# Altium schematic symbol library Connector.SchLib: 365 symbols (part 1 of 4)
Pins are listed as number, name and electrical type; pins without a type are passive.

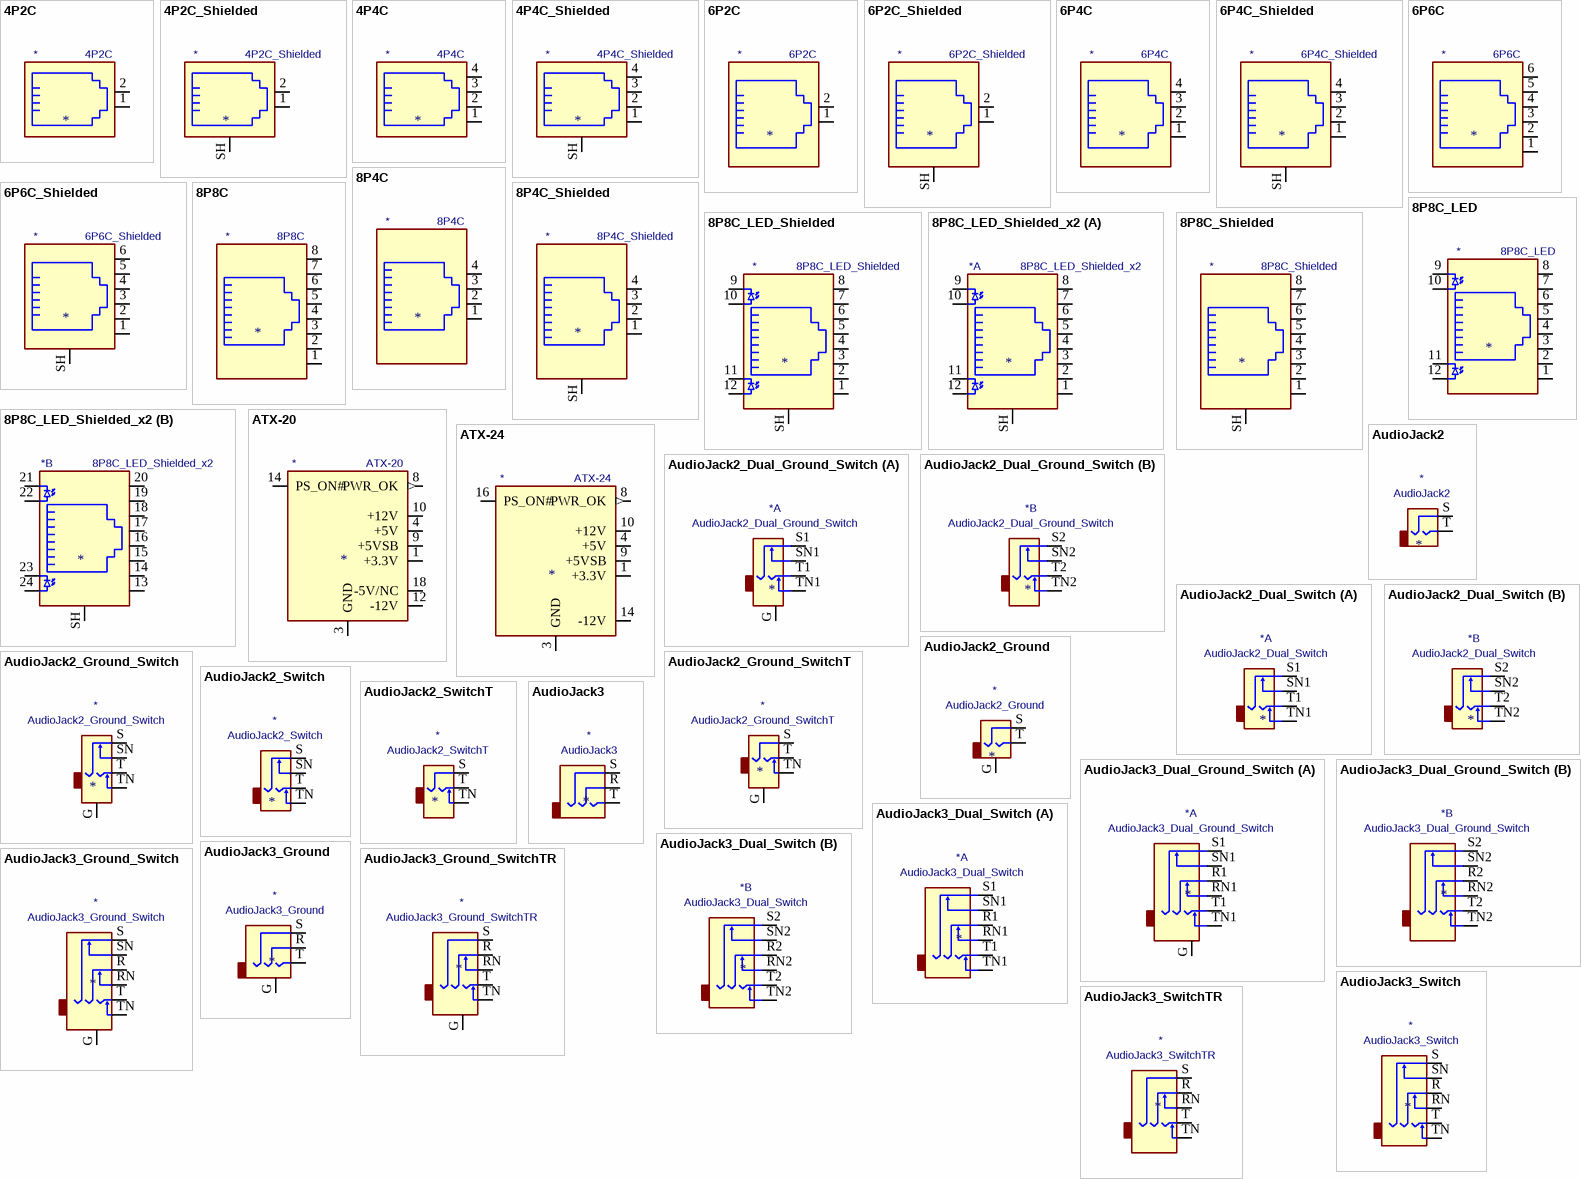
[diagram p0: symbols 4P2C to AudioJack3_SwitchTR]

## 4P2C
designator *  value 4P2C
ki_keywords: 4P2C RJ female connector; ki_description: RJ connector, 4P2C (4 positions 2 connected); ki_fp_filters: 4P2C*; Supplier: ~
pins: 1, 2

## 4P2C_Shielded
designator *  value 4P2C_Shielded
ki_keywords: 4P2C RJ female connector; ki_description: RJ connector, 4P2C (4 positions 2 connected), Shielded; ki_fp_filters: 4P2C*; Supplier: ~
pins: 1, 2, SH

## 4P4C
designator *  value 4P4C
ki_keywords: 4P4C RJ female connector; ki_description: RJ connector, 4P4C (4 positions 4 connected), RJ9/RJ10/RJ22; ki_fp_filters: 4P4C* RJ9* RJ10* RJ22*; Supplier: ~
pins: 1, 2, 3, 4

## 4P4C_Shielded
designator *  value 4P4C_Shielded
ki_keywords: 4P4C RJ female connector; ki_description: RJ connector, 4P4C (4 positions 4 connected), RJ9/RJ10/RJ22, Shielded; ki_fp_filters: 4P4C* RJ9* RJ10* RJ22*; Supplier: ~
pins: 1, 2, 3, 4, SH

## 6P2C
designator *  value 6P2C
ki_keywords: 6P2C RJ female connector; ki_description: RJ connector, 6P2C (6 positions 2 connected), RJ11; ki_fp_filters: 6P2C* RJ11*; Supplier: ~
pins: 1, 2

## 6P2C_Shielded
designator *  value 6P2C_Shielded
ki_keywords: 6P2C RJ female connector; ki_description: RJ connector, 6P2C (6 positions 2 connected), RJ11, Shielded; ki_fp_filters: 6P2C* RJ11*; Supplier: ~
pins: 1, 2, SH

## 6P4C
designator *  value 6P4C
ki_keywords: 6P4C RJ female connector; ki_description: RJ connector, 6P4C (6 positions 4 connected), RJ13/RJ14; ki_fp_filters: 6P4C* RJ13* RJ14*; Supplier: ~
pins: 1, 2, 3, 4

## 6P4C_Shielded
designator *  value 6P4C_Shielded
ki_keywords: 6P4C RJ female connector; ki_description: RJ connector, 6P4C (6 positions 4 connected), RJ13/RJ14, Shielded; ki_fp_filters: 6P4C* RJ13* RJ14*; Supplier: ~
pins: 1, 2, 3, 4, SH

## 6P6C
designator *  value 6P6C
ki_keywords: 6P6C RJ female connector; ki_description: RJ connector, 6P6C (6 positions 6 connected), RJ12/RJ18/RJ25; ki_fp_filters: 6P6C* RJ12* RJ18* RJ25*; Supplier: ~
pins: 1, 2, 3, 4, 5, 6

## 6P6C_Shielded
designator *  value 6P6C_Shielded
ki_keywords: 6P6C RJ female connector; ki_description: RJ connector, 6P6C (6 positions 6 connected), RJ12/RJ18/RJ25, Shielded; ki_fp_filters: 6P6C* RJ12* RJ18* RJ25*; Supplier: ~
pins: 1, 2, 3, 4, 5, 6, SH

## 8P4C
designator *  value 8P4C
ki_keywords: 8P4C RJ female connector; ki_description: RJ connector, 8P4C (8 positions 4 connected), RJ38/RJ48; ki_fp_filters: 8P4C* RJ38* RJ48*; Supplier: ~
pins: 1, 2, 3, 4

## 8P4C_Shielded
designator *  value 8P4C_Shielded
ki_keywords: 8P4C RJ female connector; ki_description: RJ connector, 8P4C (8 positions 4 connected), RJ38/RJ48, Shielded; ki_fp_filters: 8P4C* RJ38* RJ48*; Supplier: ~
pins: 1, 2, 3, 4, SH

## 8P8C
designator *  value 8P8C
ki_keywords: 8P8C RJ female connector; ki_description: RJ connector, 8P8C (8 positions 8 connected), RJ31/RJ32/RJ33/RJ34/RJ35/RJ41/RJ45/RJ49/RJ61; ki_fp_filters: 8P8C* RJ31* RJ32* RJ33* RJ34* RJ35* RJ41* RJ45* RJ49* RJ61*; Supplier: ~
pins: 1, 2, 3, 4, 5, 6, 7, 8

## 8P8C_LED
designator *  value 8P8C_LED
ki_keywords: 8P8C RJ female connector led; ki_description: RJ connector, 8P8C (8 positions 8 connected), two LEDs, RJ45; ki_fp_filters: 8P8C* RJ45*; Supplier: ~
pins: 1, 2, 3, 4, 5, 6, 7, 8, 9, 10, 11, 12

## 8P8C_LED_Shielded
designator *  value 8P8C_LED_Shielded
ki_keywords: 8P8C RJ female connector led; ki_description: RJ connector, 8P8C (8 positions 8 connected), two LEDs, RJ45, Shielded; ki_fp_filters: 8P8C* RJ45*; Supplier: ~
pins: 1, 2, 3, 4, 5, 6, 7, 8, 9, 10, 11, 12, SH

## 8P8C_LED_Shielded_x2
designator *  value 8P8C_LED_Shielded_x2
ki_keywords: 8P8C RJ female connector led dual; ki_description: RJ connector, 8P8C (8 positions 8 connected), two LEDs, RJ45, Shielded, two ports; ki_fp_filters: 8P8C*02* RJ45*02*; Supplier: ~
part A pins: 1, 2, 3, 4, 5, 6, 7, 8, 9, 10, 11, 12, SH
part B pins: 13, 14, 15, 16, 17, 18, 19, 20, 21, 22, 23, 24, SH

## 8P8C_Shielded
designator *  value 8P8C_Shielded
ki_keywords: 8P8C RJ female connector; ki_description: RJ connector, 8P8C (8 positions 8 connected), RJ31/RJ32/RJ33/RJ34/RJ35/RJ41/RJ45/RJ49/RJ61, Shielded; ki_fp_filters: 8P8C* RJ31* RJ32* RJ33* RJ34* RJ35* RJ41* RJ45* RJ49* RJ61*; Supplier: ~
pins: 1, 2, 3, 4, 5, 6, 7, 8, SH

## ATX-20
designator *  value ATX-20
ki_keywords: ATX PSU; ki_description: ATX Power supply 20pins; ki_fp_filters: *Mini?Fit*2x10*Vertical* *Mini?Fit*2x10*Horizontal*; Supplier: https://web.aub.edu.lb/pub/docs/atx_201.pdf#page=20
pins: 1 +3.3V (power), 2 +3.3V hidden, 3 GND (power), 4 +5V (power), 5 GND hidden, 6 +5V hidden, 7 GND hidden, 8 PWR_OK (out), 9 +5VSB (power), 10 +12V (power), 11 +3.3V hidden, 12 -12V (power), 13 GND hidden, 14 PS_ON# (oc), 15 GND hidden, 16 GND hidden, 17 GND hidden, 18 -5V/NC (power), 19 +5V hidden, 20 +5V hidden

## ATX-24
designator *  value ATX-24
ki_keywords: ATX PSU; ki_description: ATX Power supply 24pins; ki_fp_filters: *Mini?Fit*2x12*Vertical* *Mini?Fit*2x12*Horizontal*; Supplier: https://www.intel.com/content/dam/www/public/us/en/documents/guides/power-supply-design-guide-june.pdf#page=33
pins: 1 +3.3V (power), 2 +3.3V hidden, 3 GND (power), 4 +5V (power), 5 GND hidden, 6 +5V hidden, 7 GND hidden, 8 PWR_OK (out), 9 +5VSB (power), 10 +12V (power), 11 +12V hidden, 12 +3.3V hidden, 13 +3.3V hidden, 14 -12V (power), 15 GND hidden, 16 PS_ON# (oc), 17 GND hidden, 18 GND hidden, 19 GND hidden, 20 NC (in) hidden, 21 +5V hidden, 22 +5V hidden, 23 +5V hidden, 24 GND hidden

## AudioJack2
designator *  value AudioJack2
ki_keywords: audio jack receptacle mono phone headphone TS connector; ki_description: Audio Jack, 2 Poles (Mono / TS); ki_fp_filters: Jack*; Supplier: ~
pins: S, T

## AudioJack2_Dual_Ground_Switch
designator *  value AudioJack2_Dual_Ground_Switch
ki_keywords: audio jack dual receptacle mono headphones phone TS connector; ki_description: Audio Jack, Dual, 2 Poles (Mono / TS), Grounded Sleeve, Switched Pole (Normalling); ki_fp_filters: Jack*; Supplier: ~
part A pins: G, S1, SN1, T1, TN1
part B pins: S2, SN2, T2, TN2

## AudioJack2_Dual_Switch
designator *  value AudioJack2_Dual_Switch
ki_keywords: audio jack dual receptacle mono headphones phone TS connector; ki_description: Audio Jack, Dual, 2 Poles (Mono / TS), Switched Pole (Normalling); ki_fp_filters: Jack*; Supplier: ~
part A pins: S1, SN1, T1, TN1
part B pins: S2, SN2, T2, TN2

## AudioJack2_Ground
designator *  value AudioJack2_Ground
ki_keywords: audio jack receptacle mono phone headphone TS connector; ki_description: Audio Jack, 2 Poles (Mono / TS), Grounded Sleeve; ki_fp_filters: Jack*; Supplier: ~
pins: G, S, T

## AudioJack2_Ground_Switch
designator *  value AudioJack2_Ground_Switch
ki_keywords: audio jack receptacle mono headphones phone TS connector; ki_description: Audio Jack, 2 Poles (Mono / TS), Grounded Sleeve, Switched Pole (Normalling); ki_fp_filters: Jack*; Supplier: ~
pins: G, S, SN, T, TN

## AudioJack2_Ground_SwitchT
designator *  value AudioJack2_Ground_SwitchT
ki_keywords: audio jack receptacle mono headphones phone TS connector; ki_description: Audio Jack, 2 Poles (Mono / TS), Grounded Sleeve, Switched T Pole (Normalling); ki_fp_filters: Jack*; Supplier: ~
pins: G, S, T, TN

## AudioJack2_Switch
designator *  value AudioJack2_Switch
ki_keywords: audio jack receptacle mono headphones phone TS connector; ki_description: Audio Jack, 2 Poles (Mono / TS), Switched Pole (Normalling); ki_fp_filters: Jack*; Supplier: ~
pins: S, SN, T, TN

## AudioJack2_SwitchT
designator *  value AudioJack2_SwitchT
ki_keywords: audio jack receptacle mono headphones phone TS connector; ki_description: Audio Jack, 2 Poles (Mono / TS), Switched T Pole (Normalling); ki_fp_filters: Jack*; Supplier: ~
pins: S, T, TN

## AudioJack3
designator *  value AudioJack3
ki_keywords: audio jack receptacle stereo headphones phones TRS connector; ki_description: Audio Jack, 3 Poles (Stereo / TRS); ki_fp_filters: Jack*; Supplier: ~
pins: R, S, T

## AudioJack3_Dual_Ground_Switch
designator *  value AudioJack3_Dual_Ground_Switch
ki_keywords: audio jack dual receptacle stereo headphones phones TRS connector; ki_description: Audio Jack, Dual, 3 Poles (Stereo / TRS), Grounded Sleeve, Switched Poles (Normalling); ki_fp_filters: Jack*; Supplier: ~
part A pins: G, R1, RN1, S1, SN1, T1, TN1
part B pins: R2, RN2, S2, SN2, T2, TN2

## AudioJack3_Dual_Switch
designator *  value AudioJack3_Dual_Switch
ki_keywords: audio jack dual receptacle stereo headphones phones TRS connector; ki_description: Audio Jack, Dual, 3 Poles (Stereo / TRS), Switched Poles (Normalling); ki_fp_filters: Jack*; Supplier: ~
part A pins: R1, RN1, S1, SN1, T1, TN1
part B pins: R2, RN2, S2, SN2, T2, TN2

## AudioJack3_Ground
designator *  value AudioJack3_Ground
ki_keywords: audio jack receptacle stereo headphones phones TRS connector; ki_description: Audio Jack, 3 Poles (Stereo / TRS), Grounded Sleeve; ki_fp_filters: Jack*; Supplier: ~
pins: G, R, S, T

## AudioJack3_Ground_Switch
designator *  value AudioJack3_Ground_Switch
ki_keywords: audio jack receptacle stereo headphones phones TRS connector; ki_description: Audio Jack, 3 Poles (Stereo / TRS), Grounded Sleeve, Switched Poles (Normalling); ki_fp_filters: Jack*; Supplier: ~
pins: G, R, RN, S, SN, T, TN

## AudioJack3_Ground_SwitchTR
designator *  value AudioJack3_Ground_SwitchTR
ki_keywords: audio jack receptacle stereo headphones phones TRS connector; ki_description: Audio Jack, 3 Poles (Stereo / TRS), Grounded Sleeve, Switched TR Poles (Normalling); ki_fp_filters: Jack*; Supplier: ~
pins: G, R, RN, S, T, TN

## AudioJack3_Switch
designator *  value AudioJack3_Switch
ki_keywords: audio jack receptacle stereo headphones connector; ki_description: Audio Jack, 3 Poles (Stereo / TRS), Switched Poles (Normalling); ki_fp_filters: Jack*; Supplier: ~
pins: R, RN, S, SN, T, TN

## AudioJack3_SwitchTR
designator *  value AudioJack3_SwitchTR
ki_keywords: audio jack receptacle stereo headphones phones TRS connector; ki_description: Audio Jack, 3 Poles (Stereo / TRS), Switched TR Poles (Normalling); ki_fp_filters: Jack*; Supplier: ~
pins: R, RN, S, T, TN

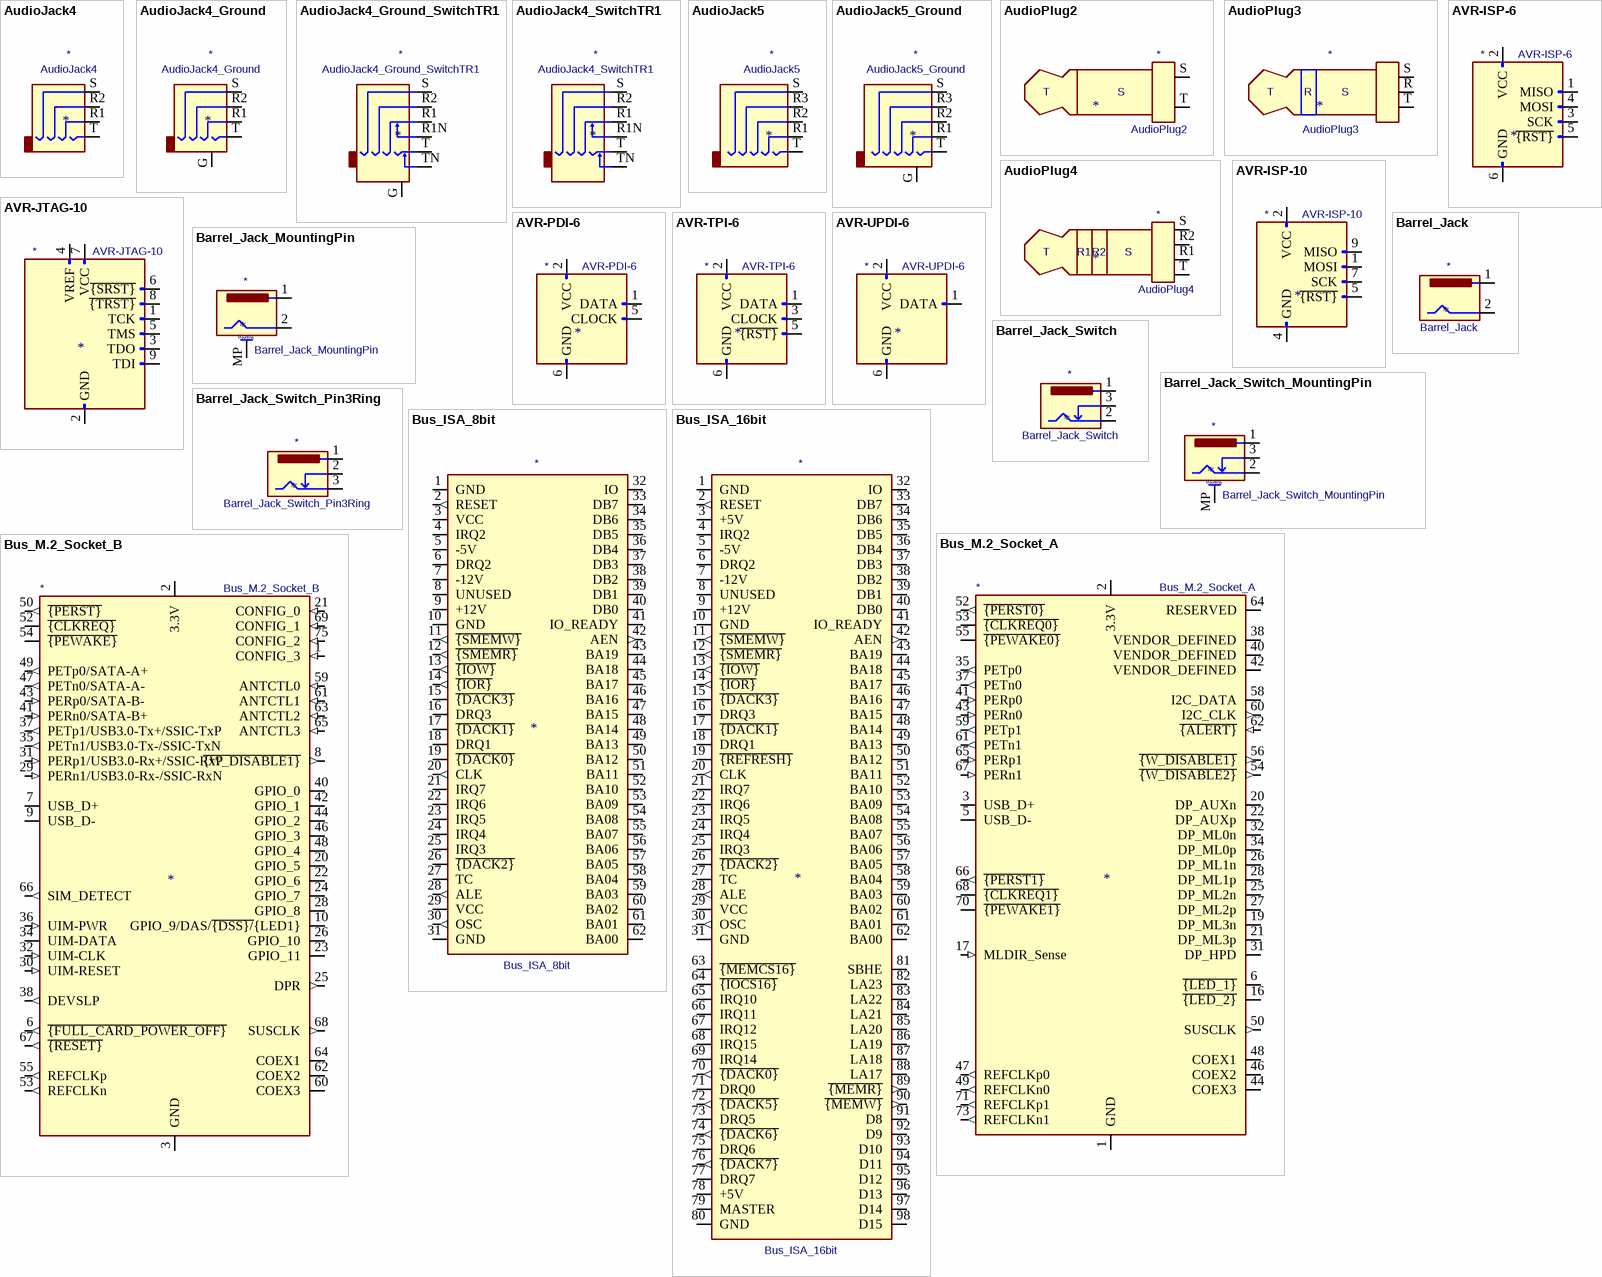
[diagram p1: symbols AudioJack4 to Bus_M.2_Socket_B]

## AudioJack4
designator *  value AudioJack4
ki_keywords: audio jack receptacle stereo headphones TRRS connector; ki_description: Audio Jack, 4 Poles (TRRS); ki_fp_filters: Jack*; Supplier: ~
pins: R1, R2, S, T

## AudioJack4_Ground
designator *  value AudioJack4_Ground
ki_keywords: audio jack receptacle stereo headphones TRRS connector; ki_description: Audio Jack, 4 Poles (TRRS), Grounded Sleeve; ki_fp_filters: Jack*; Supplier: ~
pins: G, R1, R2, S, T

## AudioJack4_Ground_SwitchTR1
designator *  value AudioJack4_Ground_SwitchTR1
ki_keywords: audio jack receptacle stereo headphones phones TRS connector; ki_description: Audio Jack, 4 Poles (Stereo / TRRS), Grounded Sleeve, Switched TR1 Poles (Normalling); ki_fp_filters: Jack*; Supplier: ~
pins: G, R1, R1N, R2, S, T, TN

## AudioJack4_SwitchTR1
designator *  value AudioJack4_SwitchTR1
ki_keywords: audio jack receptacle stereo headphones phones TRS connector; ki_description: Audio Jack, 4 Poles (Stereo / TRRS), Switched TR1 Poles (Normalling); ki_fp_filters: Jack*; Supplier: ~
pins: R1, R1N, R2, S, T, TN

## AudioJack5
designator *  value AudioJack5
ki_keywords: audio jack receptacle stereo headphones TRRRS connector; ki_description: Audio Jack, 5 Poles (TRRRS); ki_fp_filters: Jack*; Supplier: ~
pins: R1, R2, R3, S, T

## AudioJack5_Ground
designator *  value AudioJack5_Ground
ki_keywords: audio jack receptacle stereo headphones TRRRS connector; ki_description: Audio Jack, 5 Poles (TRRRS), Grounded Sleeve; ki_fp_filters: Jack*; Supplier: ~
pins: G, R1, R2, R3, S, T

## AudioPlug2
designator *  value AudioPlug2
ki_keywords: audio jack plug stereo headphones TRRS connector 2.5mm 3.5mm 6.35mm; ki_description: Audio Jack, 2 Poles (Mono / TS); ki_fp_filters: Plug*; Supplier: ~
pins: S, T

## AudioPlug3
designator *  value AudioPlug3
ki_keywords: audio jack plug stereo headphones TRRS connector 2.5mm 3.5mm 6.35mm; ki_description: Audio Jack, 3 Poles (Stereo / TRS); ki_fp_filters: Plug*; Supplier: ~
pins: R, S, T

## AudioPlug4
designator *  value AudioPlug4
ki_keywords: audio jack plug stereo headphones TRRS connector 2.5mm 3.5mm; ki_description: Audio Jack, 4 Poles (Stereo / TRRS); ki_fp_filters: Plug*; Supplier: ~
pins: R1, R2, S, T

## AVR-ISP-6
designator *  value AVR-ISP-6
ki_keywords: AVR ISP Connector; ki_description: Atmel 6-pin ISP connector; ki_fp_filters: IDC?Header*2x03* Pin?Header*2x03*; Supplier: ~
pins: 1 MISO, 2 VCC, 3 SCK, 4 MOSI, 5 ~{{RST}}, 6 GND

## AVR-ISP-10
designator *  value AVR-ISP-10
ki_keywords: AVR ISP Connector; ki_description: Atmel 10-pin ISP connector; ki_fp_filters: IDC?Header*2x05* Pin?Header*2x05*; Supplier: ~
pins: 1 MOSI, 2 VCC, 3 NC (in) hidden, 4 GND, 5 ~{{RST}}, 6 GND hidden, 7 SCK, 8 GND hidden, 9 MISO, 10 GND hidden

## AVR-JTAG-10
designator *  value AVR-JTAG-10
ki_keywords: AVR JTAG Connector; ki_description: Atmel 10-pin JTAG connector; ki_fp_filters: IDC?Header*2x05* Pin?Header*2x05*; Supplier: ~
pins: 1 TCK, 2 GND, 3 TDO, 4 VREF, 5 TMS, 6 ~{{SRST}}, 7 VCC, 8 ~{{TRST}}, 9 TDI, 10 GND hidden

## AVR-PDI-6
designator *  value AVR-PDI-6
ki_keywords: AVR PDI Connector; ki_description: Atmel 6-pin PDI connector; ki_fp_filters: IDC?Header*2x03* Pin?Header*2x03*; Supplier: ~
pins: 1 DATA, 2 VCC, 3 NC (in) hidden, 4 NC (in) hidden, 5 CLOCK, 6 GND

## AVR-TPI-6
designator *  value AVR-TPI-6
ki_keywords: AVR TPI Connector; ki_description: Atmel 6-pin TPI connector; ki_fp_filters: IDC?Header*2x03* Pin?Header*2x03*; Supplier: ~
pins: 1 DATA, 2 VCC, 3 CLOCK, 4 NC (in) hidden, 5 ~{{RST}}, 6 GND

## AVR-UPDI-6
designator *  value AVR-UPDI-6
ki_keywords: AVR UPDI Connector; ki_description: Atmel 6-pin UPDI connector; ki_fp_filters: IDC?Header*2x03* Pin?Header*2x03*; Supplier: https://www.microchip.com/webdoc/GUID-9D10622A-5C16-4405-B092-1BDD437B4976/index.html?GUID-9B349315-2842-4189-B88C-49F4E1055D7F
pins: 1 DATA, 2 VCC, 3 NC (in) hidden, 4 NC (in) hidden, 5 NC (in) hidden, 6 GND

## Barrel_Jack
designator *  value Barrel_Jack
ki_keywords: DC power barrel jack connector; ki_description: DC Barrel Jack; ki_fp_filters: BarrelJack*; Supplier: ~
pins: 1, 2

## Barrel_Jack_MountingPin
designator *  value Barrel_Jack_MountingPin
ki_keywords: DC power barrel jack connector; ki_description: DC Barrel Jack with a mounting pin; ki_fp_filters: BarrelJack*; Supplier: ~
pins: 1, 2, MP MountPin
text: Mounting

## Barrel_Jack_Switch
designator *  value Barrel_Jack_Switch
ki_keywords: DC power barrel jack connector; ki_description: DC Barrel Jack with an internal switch; ki_fp_filters: BarrelJack*; Supplier: ~
pins: 1, 2, 3

## Barrel_Jack_Switch_MountingPin
designator *  value Barrel_Jack_Switch_MountingPin
ki_keywords: DC power barrel jack connector; ki_description: DC Barrel Jack with an internal switch and a mounting pin; ki_fp_filters: BarrelJack*; Supplier: ~
pins: 1, 2, 3, MP MountPin
text: Mounting

## Barrel_Jack_Switch_Pin3Ring
designator *  value Barrel_Jack_Switch_Pin3Ring
ki_keywords: DC power barrel jack connector; ki_description: DC Barrel Jack with an internal switch; ki_fp_filters: BarrelJack*; Supplier: ~
pins: 1, 2, 3

## Bus_ISA_8bit
designator *  value Bus_ISA_8bit
ki_keywords: ISA; ki_description: 8-bit ISA-PC bus connector; Supplier: https://en.wikipedia.org/wiki/Industry_Standard_Architecture
pins: 1 GND (power), 2 RESET (out), 3 VCC (power), 4 IRQ2, 5 -5V (power), 6 DRQ2, 7 -12V (power), 8 UNUSED, 9 +12V (power), 10 GND (power), 11 ~{{SMEMW}} (out), 12 ~{{SMEMR}} (out), 13 ~{{IOW}} (out), 14 ~{{IOR}} (out), 15 ~{{DACK3}}, 16 DRQ3, 17 ~{{DACK1}}, 18 DRQ1, 19 ~{{DACK0}}, 20 CLK (out), 21 IRQ7, 22 IRQ6, 23 IRQ5, 24 IRQ4, 25 IRQ3, 26 ~{{DACK2}}, 27 TC, 28 ALE (out), 29 VCC (power), 30 OSC (out), 31 GND (power), 32 IO, 33 DB7 (hiz), 34 DB6 (hiz), 35 DB5 (hiz), 36 DB4 (hiz), 37 DB3 (hiz), 38 DB2 (hiz), 39 DB1 (hiz), 40 DB0 (hiz), 41 IO_READY, 42 AEN (out), 43 BA19 (hiz), 44 BA18 (hiz), 45 BA17 (hiz), 46 BA16 (hiz), 47 BA15 (hiz), 48 BA14 (hiz), 49 BA13 (hiz), 50 BA12 (hiz), 51 BA11 (hiz), 52 BA10 (hiz), 53 BA09 (hiz), 54 BA08 (hiz), 55 BA07 (hiz), 56 BA06 (hiz), 57 BA05 (hiz), 58 BA04 (hiz), 59 BA03 (hiz), 60 BA02 (hiz), 61 BA01 (hiz), 62 BA00 (hiz)

## Bus_ISA_16bit
designator *  value Bus_ISA_16bit
ki_keywords: ISA; ki_description: 16-bit ISA-AT bus connector; Supplier: https://en.wikipedia.org/wiki/Industry_Standard_Architecture
pins: 1 GND (power), 2 RESET (out), 3 +5V (power), 4 IRQ2, 5 -5V (power), 6 DRQ2, 7 -12V (power), 8 UNUSED, 9 +12V (power), 10 GND (power), 11 ~{{SMEMW}} (out), 12 ~{{SMEMR}} (out), 13 ~{{IOW}} (out), 14 ~{{IOR}} (out), 15 ~{{DACK3}}, 16 DRQ3, 17 ~{{DACK1}}, 18 DRQ1, 19 ~{{REFRESH}}, 20 CLK (out), 21 IRQ7, 22 IRQ6, 23 IRQ5, 24 IRQ4, 25 IRQ3, 26 ~{{DACK2}}, 27 TC, 28 ALE (out), 29 VCC (power), 30 OSC (out), 31 GND (power), 32 IO, 33 DB7 (hiz), 34 DB6 (hiz), 35 DB5 (hiz), 36 DB4 (hiz), 37 DB3 (hiz), 38 DB2 (hiz), 39 DB1 (hiz), 40 DB0 (hiz), 41 IO_READY, 42 AEN (out), 43 BA19 (hiz), 44 BA18 (hiz), 45 BA17 (hiz), 46 BA16 (hiz), 47 BA15 (hiz), 48 BA14 (hiz), 49 BA13 (hiz), 50 BA12 (hiz), 51 BA11 (hiz), 52 BA10 (hiz), 53 BA09 (hiz), 54 BA08 (hiz), 55 BA07 (hiz), 56 BA06 (hiz), 57 BA05 (hiz), 58 BA04 (hiz), 59 BA03 (hiz), 60 BA02 (hiz), 61 BA01 (hiz), 62 BA00 (hiz), 63 ~{{MEMCS16}}, 64 ~{{IOCS16}}, 65 IRQ10, 66 IRQ11, 67 IRQ12, 68 IRQ15, 69 IRQ14, 70 ~{{DACK0}} (out), 71 DRQ0, 72 ~{{DACK5}} (out), 73 DRQ5, 74 ~{{DACK6}} (out), 75 DRQ6, 76 ~{{DACK7}} (out), 77 DRQ7, 78 +5V (power), 79 MASTER, 80 GND (power), 81 SBHE, 82 LA23, 83 LA22, 84 LA21, 85 LA20, 86 LA19, 87 LA18, 88 LA17, 89 ~{{MEMR}} (out), 90 ~{{MEMW}} (out), 91 D8 (hiz), 92 D9 (hiz), 93 D10 (hiz), 94 D11 (hiz), 95 D12 (hiz), 96 D13 (hiz), 97 D14 (hiz), 98 D15 (hiz)

## Bus_M.2_Socket_A
designator *  value Bus_M.2_Socket_A
ki_keywords: M2 NGNF PCI-E; ki_description: M.2 Socket 1-DP Mechanical Key A; ki_fp_filters: *M*2*A*; Supplier: http://read.pudn.com/downloads794/doc/project/3133918/PCIe_M.2_Electromechanical_Spec_Rev1.0_Final_11012013_RS_Clean.pdf#page=148
pins: 1 GND (power), 2 3.3V (power), 3 USB_D+ (io), 4 3.3V hidden, 5 USB_D- (io), 6 ~{{LED_1}} (oc), 7 GND hidden, 16 ~{{LED_2}} (oc), 17 MLDIR_Sense (in), 18 GND hidden, 19 DP_ML3n (io), 20 DP_AUXn (io), 21 DP_ML3p (io), 22 DP_AUXp (io), 23 GND hidden, 24 GND hidden, 25 DP_ML2n (io), 26 DP_ML1n (io), 27 DP_ML2p (io), 28 DP_ML1p (io), 29 GND hidden, 30 GND hidden, 31 DP_HPD (io), 32 DP_ML0n (io), 33 GND hidden, 34 DP_ML0p (io), 35 PETp0 (out), 36 GND hidden, 37 PETn0 (out), 38 VENDOR_DEFINED, 39 GND hidden, 40 VENDOR_DEFINED, 41 PERp0 (in), 42 VENDOR_DEFINED, 43 PERn0 (in), 44 COEX3 (io), 45 GND hidden, 46 COEX2 (io), 47 REFCLKp0 (out), 48 COEX1 (io), 49 REFCLKn0 (out), 50 SUSCLK (out), 51 GND hidden, 52 ~{{PERST0}} (out), 53 ~{{CLKREQ0}} (io), 54 ~{{W_DISABLE2}} (out), 55 ~{{PEWAKE0}} (io), 56 ~{{W_DISABLE1}} (out), 57 GND hidden, 58 I2C_DATA (io), 59 PETp1 (out), 60 I2C_CLK (out), 61 PETn1 (out), 62 ~{{ALERT}} (in), 63 GND hidden, 64 RESERVED, 65 PERp1 (in), 66 ~{{PERST1}} (out), 67 PERn1 (in), 68 ~{{CLKREQ1}} (io), 69 GND hidden, 70 ~{{PEWAKE1}} (io), 71 REFCLKp1 (out), 72 3.3V hidden, 73 REFCLKn1 (out), 74 3.3V hidden, 75 GND hidden

## Bus_M.2_Socket_B
designator *  value Bus_M.2_Socket_B
ki_keywords: M2 NGNF PCI-E; ki_description: M.2 Socket 2 Mechanical Key B; ki_fp_filters: *M*2*B*; Supplier: http://read.pudn.com/downloads794/doc/project/3133918/PCIe_M.2_Electromechanical_Spec_Rev1.0_Final_11012013_RS_Clean.pdf#page=154
pins: 1 CONFIG_3 (in), 2 3.3V (power), 3 GND (power), 4 3.3V hidden, 5 GND hidden, 6 ~{{FULL_CARD_POWER_OFF}} (out), 7 USB_D+ (io), 8 ~{{W_DISABLE1}} (out), 9 USB_D- (io), 10 GPIO_9/DAS/~{{DSS}/}{LED1} (io), 11 GND hidden, 20 GPIO_5 (io), 21 CONFIG_0 (in), 22 GPIO_6 (io), 23 GPIO_11 (io), 24 GPIO_7 (io), 25 DPR (out), 26 GPIO_10 (io), 27 GND hidden, 28 GPIO_8 (io), 29 PERn1/USB3.0-Rx-/SSIC-RxN (in), 30 UIM-RESET (in), 31 PERp1/USB3.0-Rx+/SSIC-RxP (in), 32 UIM-CLK (in), 33 GND hidden, 34 UIM-DATA (io), 35 PETn1/USB3.0-Tx-/SSIC-TxN (out), 36 UIM-PWR (in), 37 PETp1/USB3.0-Tx+/SSIC-TxP (out), 38 DEVSLP (out), 39 GND hidden, 40 GPIO_0 (io), 41 PERn0/SATA-B+ (in), 42 GPIO_1 (io), 43 PERp0/SATA-B- (in), 44 GPIO_2 (io), 45 GND hidden, 46 GPIO_3 (io), 47 PETn0/SATA-A- (out), 48 GPIO_4 (io), 49 PETp0/SATA-A+ (out), 50 ~{{PERST}} (out), 51 GND hidden, 52 ~{{CLKREQ}} (io), 53 REFCLKn (out), 54 ~{{PEWAKE}} (io), 55 REFCLKp (out), 56 NC (in) hidden, 57 GND hidden, 58 NC (in) hidden, 59 ANTCTL0 (in), 60 COEX3 (io), 61 ANTCTL1 (in), 62 COEX2 (io), 63 ANTCTL2 (in), 64 COEX1 (io), 65 ANTCTL3 (in), 66 SIM_DETECT (out), 67 ~{{RESET}} (out), 68 SUSCLK (out), 69 CONFIG_1 (in), 70 3.3V hidden, 71 GND hidden, 72 3.3V hidden, 73 GND hidden, 74 3.3V hidden, 75 CONFIG_2 (in)

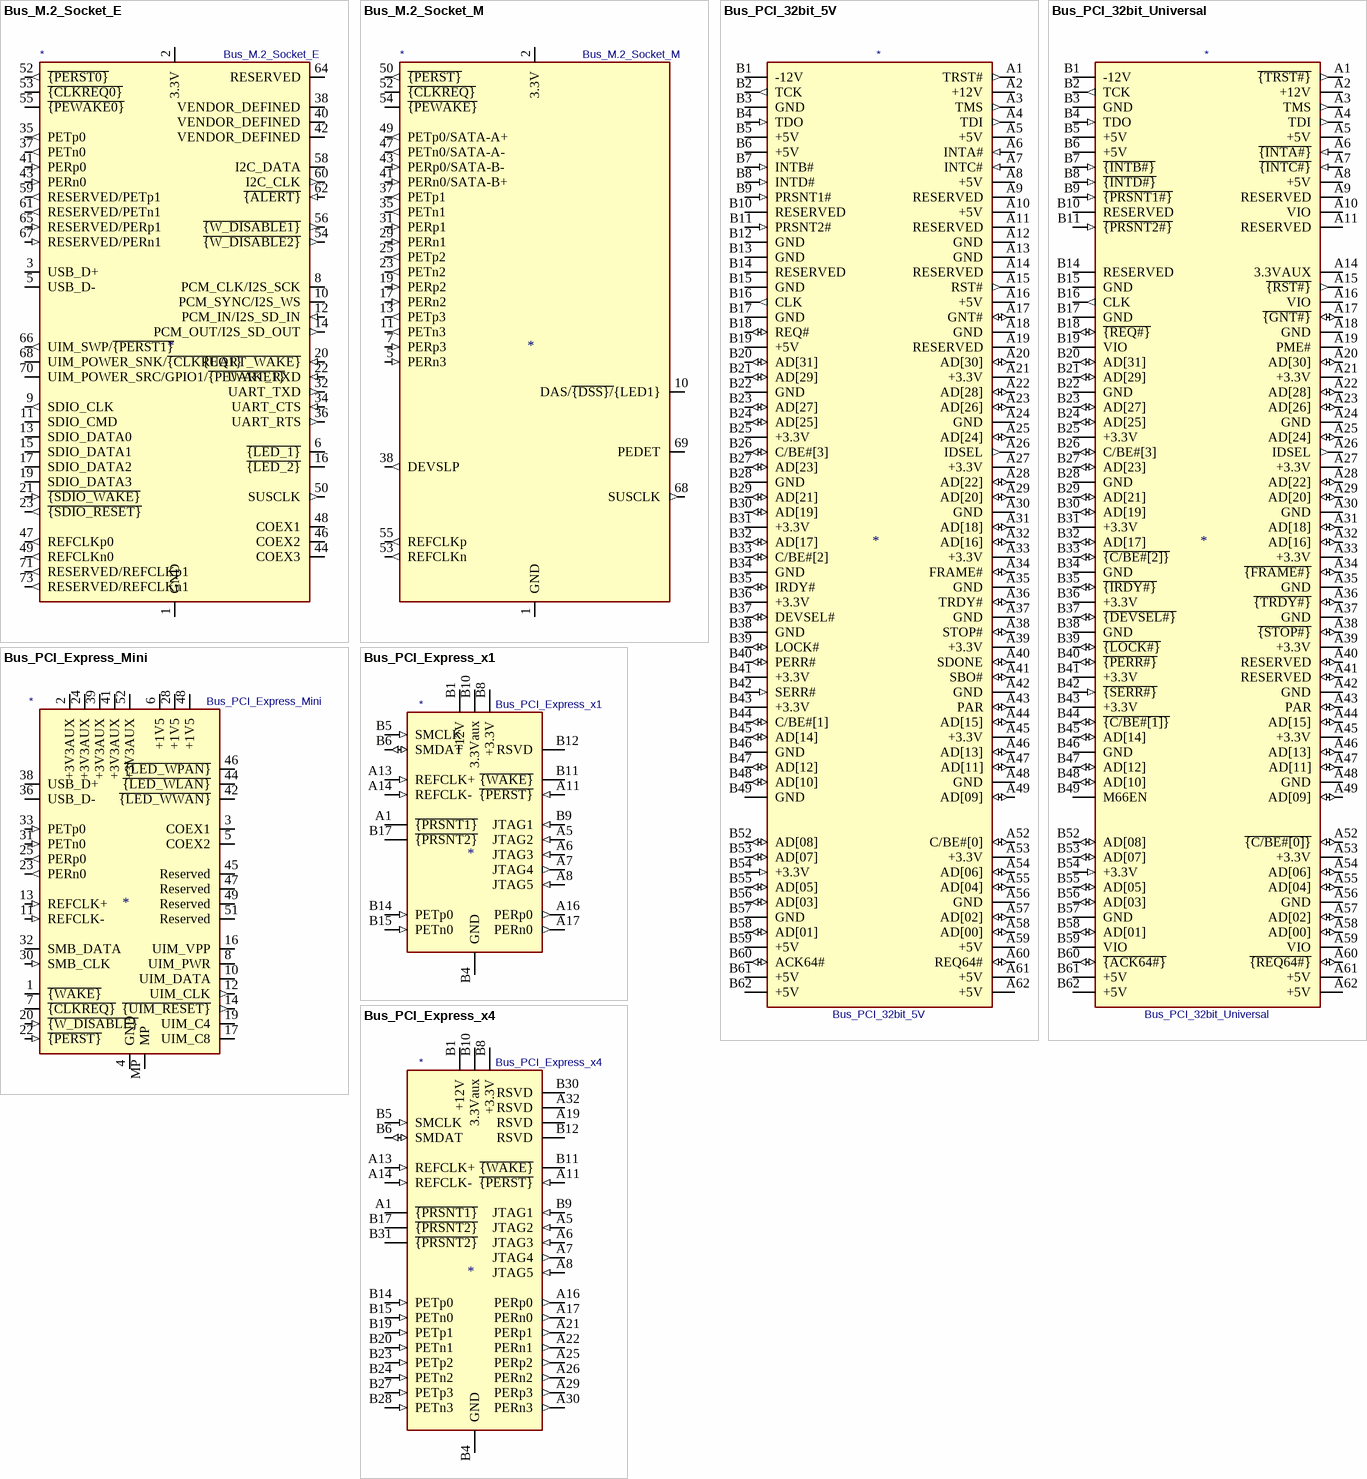
[diagram p2: symbols Bus_M.2_Socket_E to Bus_PCI_Express_x4]

## Bus_M.2_Socket_E
designator *  value Bus_M.2_Socket_E
ki_keywords: M2 NGNF PCI-E; ki_description: M.2 Socket 1-SD Mechanical Key E; ki_fp_filters: *M*2*E*; Supplier: http://read.pudn.com/downloads794/doc/project/3133918/PCIe_M.2_Electromechanical_Spec_Rev1.0_Final_11012013_RS_Clean.pdf#page=150
pins: 1 GND (power), 2 3.3V (power), 3 USB_D+ (io), 4 3.3V hidden, 5 USB_D- (io), 6 ~{{LED_1}} (oc), 7 GND hidden, 8 PCM_CLK/I2S_SCK (io), 9 SDIO_CLK (out), 10 PCM_SYNC/I2S_WS (io), 11 SDIO_CMD (io), 12 PCM_IN/I2S_SD_IN (in), 13 SDIO_DATA0 (io), 14 PCM_OUT/I2S_SD_OUT (out), 15 SDIO_DATA1 (io), 16 ~{{LED_2}} (oc), 17 SDIO_DATA2 (io), 18 GND hidden, 19 SDIO_DATA3 (io), 20 ~{{UART_WAKE}} (in), 21 ~{{SDIO_WAKE}} (in), 22 UART_RXD (in), 23 ~{{SDIO_RESET}} (out), 32 UART_TXD (out), 33 GND hidden, 34 UART_CTS (in), 35 PETp0 (out), 36 UART_RTS (out), 37 PETn0 (out), 38 VENDOR_DEFINED, 39 GND hidden, 40 VENDOR_DEFINED, 41 PERp0 (in), 42 VENDOR_DEFINED, 43 PERn0 (in), 44 COEX3 (io), 45 GND hidden, 46 COEX2 (io), 47 REFCLKp0 (out), 48 COEX1 (io), 49 REFCLKn0 (out), 50 SUSCLK (out), 51 GND hidden, 52 ~{{PERST0}} (out), 53 ~{{CLKREQ0}} (io), 54 ~{{W_DISABLE2}} (out), 55 ~{{PEWAKE0}} (io), 56 ~{{W_DISABLE1}} (out), 57 GND hidden, 58 I2C_DATA (io), 59 RESERVED/PETp1 (out), 60 I2C_CLK (out), 61 RESERVED/PETn1 (out), 62 ~{{ALERT}} (in), 63 GND hidden, 64 RESERVED, 65 RESERVED/PERp1 (in), 66 UIM_SWP/~{{PERST1}} (out), 67 RESERVED/PERn1 (in), 68 UIM_POWER_SNK/~{{CLKREQ1}} (io), 69 GND hidden, 70 UIM_POWER_SRC/GPIO1/~{{PEWAKE1}} (io), 71 RESERVED/REFCLKp1 (out), 72 3.3V hidden, 73 RESERVED/REFCLKn1 (out), 74 3.3V hidden, 75 GND hidden

## Bus_M.2_Socket_M
designator *  value Bus_M.2_Socket_M
ki_keywords: M2 NGNF PCI-E; ki_description: M.2 Socket 3 Mechanical Key M; ki_fp_filters: *M*2*M*; Supplier: http://read.pudn.com/downloads794/doc/project/3133918/PCIe_M.2_Electromechanical_Spec_Rev1.0_Final_11012013_RS_Clean.pdf#page=155
pins: 1 GND (power), 2 3.3V (power), 3 GND hidden, 4 3.3V hidden, 5 PERn3 (in), 6 NC (in) hidden, 7 PERp3 (in), 8 NC (in) hidden, 9 GND hidden, 10 DAS/~{{DSS}/}{LED1} (io), 11 PETn3 (out), 12 3.3V hidden, 13 PETp3 (out), 14 3.3V hidden, 15 GND hidden, 16 3.3V hidden, 17 PERn2 (in), 18 3.3V hidden, 19 PERp2 (in), 20 NC (in) hidden, 21 GND hidden, 22 NC (in) hidden, 23 PETn2 (out), 24 NC (in) hidden, 25 PETp2 (out), 26 NC (in) hidden, 27 GND hidden, 28 NC (in) hidden, 29 PERn1 (in), 30 NC (in) hidden, 31 PERp1 (in), 32 NC (in) hidden, 33 GND hidden, 34 NC (in) hidden, 35 PETn1 (out), 36 NC (in) hidden, 37 PETp1 (out), 38 DEVSLP (out), 39 GND hidden, 40 NC (in) hidden, 41 PERn0/SATA-B+ (in), 42 NC (in) hidden, 43 PERp0/SATA-B- (in), 44 NC (in) hidden, 45 GND hidden, 46 NC (in) hidden, 47 PETn0/SATA-A- (out), 48 NC (in) hidden, 49 PETp0/SATA-A+ (out), 50 ~{{PERST}} (out), 51 GND hidden, 52 ~{{CLKREQ}} (io), 53 REFCLKn (out), 54 ~{{PEWAKE}} (io), 55 REFCLKp (out), 56 NC (in) hidden, 57 GND hidden, 58 NC (in) hidden, 67 NC (in) hidden, 68 SUSCLK (out), 69 PEDET, 70 3.3V hidden, 71 GND hidden, 72 3.3V hidden, 73 GND hidden, 74 3.3V hidden, 75 GND hidden

## Bus_PCI_32bit_5V
designator *  value Bus_PCI_32bit_5V
ki_keywords: PCI 5V; ki_description: PCI bus connector for 5V cards; Supplier: http://pinouts.ru/Slots/PCI_pinout.shtml
pins: A1 TRST# (out), A2 +12V (power), A3 TMS (out), A4 TDI (out), A5 +5V (power), A6 INTA# (in), A7 INTC# (in), A8 +5V (power), A9 RESERVED, A10 +5V (power), A11 RESERVED, A12 GND (power), A13 GND (power), A14 RESERVED, A15 RST# (out), A16 +5V (power), A17 GNT# (io), A18 GND (power), A19 RESERVED, A20 AD[30] (io), A21 +3.3V (power), A22 AD[28] (io), A23 AD[26] (io), A24 GND (power), A25 AD[24] (io), A26 IDSEL (out), A27 +3.3V (power), A28 AD[22] (io), A29 AD[20] (io), A30 GND (power), A31 AD[18] (io), A32 AD[16] (io), A33 +3.3V (power), A34 FRAME# (io), A35 GND (power), A36 TRDY# (io), A37 GND (power), A38 STOP# (io), A39 +3.3V (power), A40 SDONE (io), A41 SBO# (io), A42 GND (power), A43 PAR (io), A44 AD[15] (io), A45 +3.3V (power), A46 AD[13] (io), A47 AD[11] (io), A48 GND (power), A49 AD[09] (io), A52 C/BE#[0] (io), A53 +3.3V (power), A54 AD[06] (io), A55 AD[04] (io), A56 GND (power), A57 AD[02] (io), A58 AD[00] (io), A59 +5V (power), A60 REQ64# (io), A61 +5V (power), A62 +5V (power), B1 -12V (power), B2 TCK (out), B3 GND (power), B4 TDO (in), B5 +5V (power), B6 +5V (power), B7 INTB# (in), B8 INTD# (in), B9 PRSNT1# (in), B10 RESERVED, B11 PRSNT2# (in), B12 GND (power), B13 GND (power), B14 RESERVED, B15 GND (power), B16 CLK (out), B17 GND (power), B18 REQ# (io), B19 +5V (power), B20 AD[31] (io), B21 AD[29] (io), B22 GND (power), B23 AD[27] (io), B24 AD[25] (io), B25 +3.3V (power), B26 C/BE#[3] (io), B27 AD[23] (io), B28 GND (power), B29 AD[21] (io), B30 AD[19] (io), B31 +3.3V (power), B32 AD[17] (io), B33 C/BE#[2] (io), B34 GND (power), B35 IRDY# (io), B36 +3.3V (power), B37 DEVSEL# (io), B38 GND (power), B39 LOCK# (io), B40 PERR# (io), B41 +3.3V (power), B42 SERR# (in), B43 +3.3V (power), B44 C/BE#[1] (io), B45 AD[14] (io), B46 GND (power), B47 AD[12] (io), B48 AD[10] (io), B49 GND (power), B52 AD[08] (io), B53 AD[07] (io), B54 +3.3V (in), B55 AD[05] (io), B56 AD[03] (io), B57 GND (power), B58 AD[01] (io), B59 +5V (power), B60 ACK64# (io), B61 +5V (power), B62 +5V (power)

## Bus_PCI_32bit_Universal
designator *  value Bus_PCI_32bit_Universal
ki_keywords: PCI 5V 3.3V 3V3; ki_description: PCI bus connector for universal 5V/3.3V cards; Supplier: http://pinouts.ru/Slots/PCI_pinout.shtml
pins: A1 ~{{TRST#}} (out), A2 +12V (power), A3 TMS (out), A4 TDI (out), A5 +5V (power), A6 ~{{INTA#}} (in), A7 ~{{INTC#}} (in), A8 +5V (power), A9 RESERVED, A10 VIO (power), A11 RESERVED, A14 3.3VAUX, A15 ~{{RST#}} (out), A16 VIO (power), A17 ~{{GNT#}} (io), A18 GND (power), A19 PME#, A20 AD[30] (io), A21 +3.3V (power), A22 AD[28] (io), A23 AD[26] (io), A24 GND (power), A25 AD[24] (io), A26 IDSEL (out), A27 +3.3V (power), A28 AD[22] (io), A29 AD[20] (io), A30 GND (power), A31 AD[18] (io), A32 AD[16] (io), A33 +3.3V (power), A34 ~{{FRAME#}} (io), A35 GND (power), A36 ~{{TRDY#}} (io), A37 GND (power), A38 ~{{STOP#}} (io), A39 +3.3V (power), A40 RESERVED (io), A41 RESERVED (io), A42 GND (power), A43 PAR (io), A44 AD[15] (io), A45 +3.3V (power), A46 AD[13] (io), A47 AD[11] (io), A48 GND (power), A49 AD[09] (io), A52 ~{{C/BE#[0]}} (io), A53 +3.3V (power), A54 AD[06] (io), A55 AD[04] (io), A56 GND (power), A57 AD[02] (io), A58 AD[00] (io), A59 VIO (power), A60 ~{{REQ64#}} (io), A61 +5V (power), A62 +5V (power), B1 -12V (power), B2 TCK (out), B3 GND (power), B4 TDO (in), B5 +5V (power), B6 +5V (power), B7 ~{{INTB#}} (in), B8 ~{{INTD#}} (in), B9 ~{{PRSNT1#}} (in), B10 RESERVED, B11 ~{{PRSNT2#}} (in), B14 RESERVED, B15 GND (power), B16 CLK (out), B17 GND (power), B18 ~{{REQ#}} (io), B19 VIO (power), B20 AD[31] (io), B21 AD[29] (io), B22 GND (power), B23 AD[27] (io), B24 AD[25] (io), B25 +3.3V (power), B26 C/BE#[3] (io), B27 AD[23] (io), B28 GND (power), B29 AD[21] (io), B30 AD[19] (io), B31 +3.3V (power), B32 AD[17] (io), B33 ~{{C/BE#[2]}} (io), B34 GND (power), B35 ~{{IRDY#}} (io), B36 +3.3V (power), B37 ~{{DEVSEL#}} (io), B38 GND (power), B39 ~{{LOCK#}} (io), B40 ~{{PERR#}} (io), B41 +3.3V (power), B42 ~{{SERR#}} (in), B43 +3.3V (power), B44 ~{{C/BE#[1]}} (io), B45 AD[14] (io), B46 GND (power), B47 AD[12] (io), B48 AD[10] (io), B49 M66EN (power), B52 AD[08] (io), B53 AD[07] (io), B54 +3.3V (in), B55 AD[05] (io), B56 AD[03] (io), B57 GND (power), B58 AD[01] (io), B59 VIO (power), B60 ~{{ACK64#}} (io), B61 +5V (power), B62 +5V (power)

## Bus_PCI_Express_Mini
designator *  value Bus_PCI_Express_Mini
ki_keywords: mini pcie; ki_description: Mini-PCI Express bus connector; ki_fp_filters: *PCI*Express*Mini*; Supplier: ~
pins: 1 ~{{WAKE}} (oc), 2 +3V3AUX (power), 3 COEX1, 4 GND (power), 5 COEX2, 6 +1V5 (power), 7 ~{{CLKREQ}} (oc), 8 UIM_PWR (power), 9 GND hidden, 10 UIM_DATA (io), 11 REFCLK- (in), 12 UIM_CLK (out), 13 REFCLK+ (in), 14 ~{{UIM_RESET}} (out), 15 GND hidden, 16 UIM_VPP (power), 17 UIM_C8, 18 GND hidden, 19 UIM_C4, 20 ~{{W_DISABLE}} (in), 21 GND hidden, 22 ~{{PERST}} (in), 23 PERn0 (out), 24 +3V3AUX (power), 25 PERp0 (out), 26 GND hidden, 27 GND hidden, 28 +1V5 (power), 29 GND hidden, 30 SMB_CLK (in), 31 PETn0 (in), 32 SMB_DATA (io), 33 PETp0 (in), 34 GND hidden, 35 GND hidden, 36 USB_D- (io), 37 GND hidden, 38 USB_D+ (io), 39 +3V3AUX (power), 40 GND hidden, 41 +3V3AUX (power), 42 ~{{LED_WWAN}} (oc), 43 GND hidden, 44 ~{{LED_WLAN}} (oc), 45 Reserved, 46 ~{{LED_WPAN}} (oc), 47 Reserved, 48 +1V5 (power), 49 Reserved, 50 GND hidden, 51 Reserved, 52 +3V3AUX (power), MP

## Bus_PCI_Express_x1
designator *  value Bus_PCI_Express_x1
ki_keywords: pcie; ki_description: PCI Express bus connector x1; ki_fp_filters: *PCIexpress*; Footprint: Connector_PCBEdge:BUS_PCIexpress_x1; Supplier: http://www.ritrontek.com/uploadfile/2016/1026/20161026105231124.pdf#page=63
footprint BUS_PCIexpress_x1
pins: A1 ~{{PRSNT1}}, A2 +12V hidden, A3 +12V hidden, A4 GND hidden, A5 JTAG2 (in), A6 JTAG3 (in), A7 JTAG4 (out), A8 JTAG5 (in), A9 +3.3V hidden, A10 +3.3V hidden, A11 ~{{PERST}} (in), A12 GND hidden, A13 REFCLK+ (in), A14 REFCLK- (in), A15 GND hidden, A16 PERp0 (out), A17 PERn0 (out), A18 GND hidden, B1 +12V (power), B2 +12V hidden, B3 +12V hidden, B4 GND (power), B5 SMCLK (in), B6 SMDAT (io), B7 GND hidden, B8 +3.3V (power), B9 JTAG1 (in), B10 3.3Vaux (power), B11 ~{{WAKE}} (oc), B12 RSVD, B13 GND hidden, B14 PETp0 (in), B15 PETn0 (in), B16 GND hidden, B17 ~{{PRSNT2}}, B18 GND hidden

## Bus_PCI_Express_x4
designator *  value Bus_PCI_Express_x4
ki_keywords: pcie; ki_description: PCI Express bus connector x4; ki_fp_filters: *PCIexpress*; Footprint: Connector_PCBEdge:BUS_PCIexpress_x4; Supplier: http://www.ritrontek.com/uploadfile/2016/1026/20161026105231124.pdf#page=63
footprint BUS_PCIexpress_x4
pins: A1 ~{{PRSNT1}}, A2 +12V hidden, A3 +12V hidden, A4 GND hidden, A5 JTAG2 (in), A6 JTAG3 (in), A7 JTAG4 (out), A8 JTAG5 (in), A9 +3.3V hidden, A10 +3.3V hidden, A11 ~{{PERST}} (in), A12 GND hidden, A13 REFCLK+ (in), A14 REFCLK- (in), A15 GND hidden, A16 PERp0 (out), A17 PERn0 (out), A18 GND hidden, A19 RSVD, A20 GND hidden, A21 PERp1 (out), A22 PERn1 (out), A23 GND hidden, A24 GND hidden, A25 PERp2 (out), A26 PERn2 (out), A27 GND hidden, A28 GND hidden, A29 PERp3 (out), A30 PERn3 (out), A31 GND hidden, A32 RSVD, B1 +12V (power), B2 +12V hidden, B3 +12V hidden, B4 GND (power), B5 SMCLK (in), B6 SMDAT (io), B7 GND hidden, B8 +3.3V (power), B9 JTAG1 (in), B10 3.3Vaux (power), B11 ~{{WAKE}} (oc), B12 RSVD, B13 GND hidden, B14 PETp0 (in), B15 PETn0 (in), B16 GND hidden, B17 ~{{PRSNT2}}, B18 GND hidden, B19 PETp1 (in), B20 PETn1 (in), B21 GND hidden, B22 GND hidden, B23 PETp2 (in), B24 PETn2 (in), B25 GND hidden, B26 GND hidden, B27 PETp3 (in), B28 PETn3 (in), B29 GND hidden, B30 RSVD, B31 ~{{PRSNT2}}, B32 GND hidden

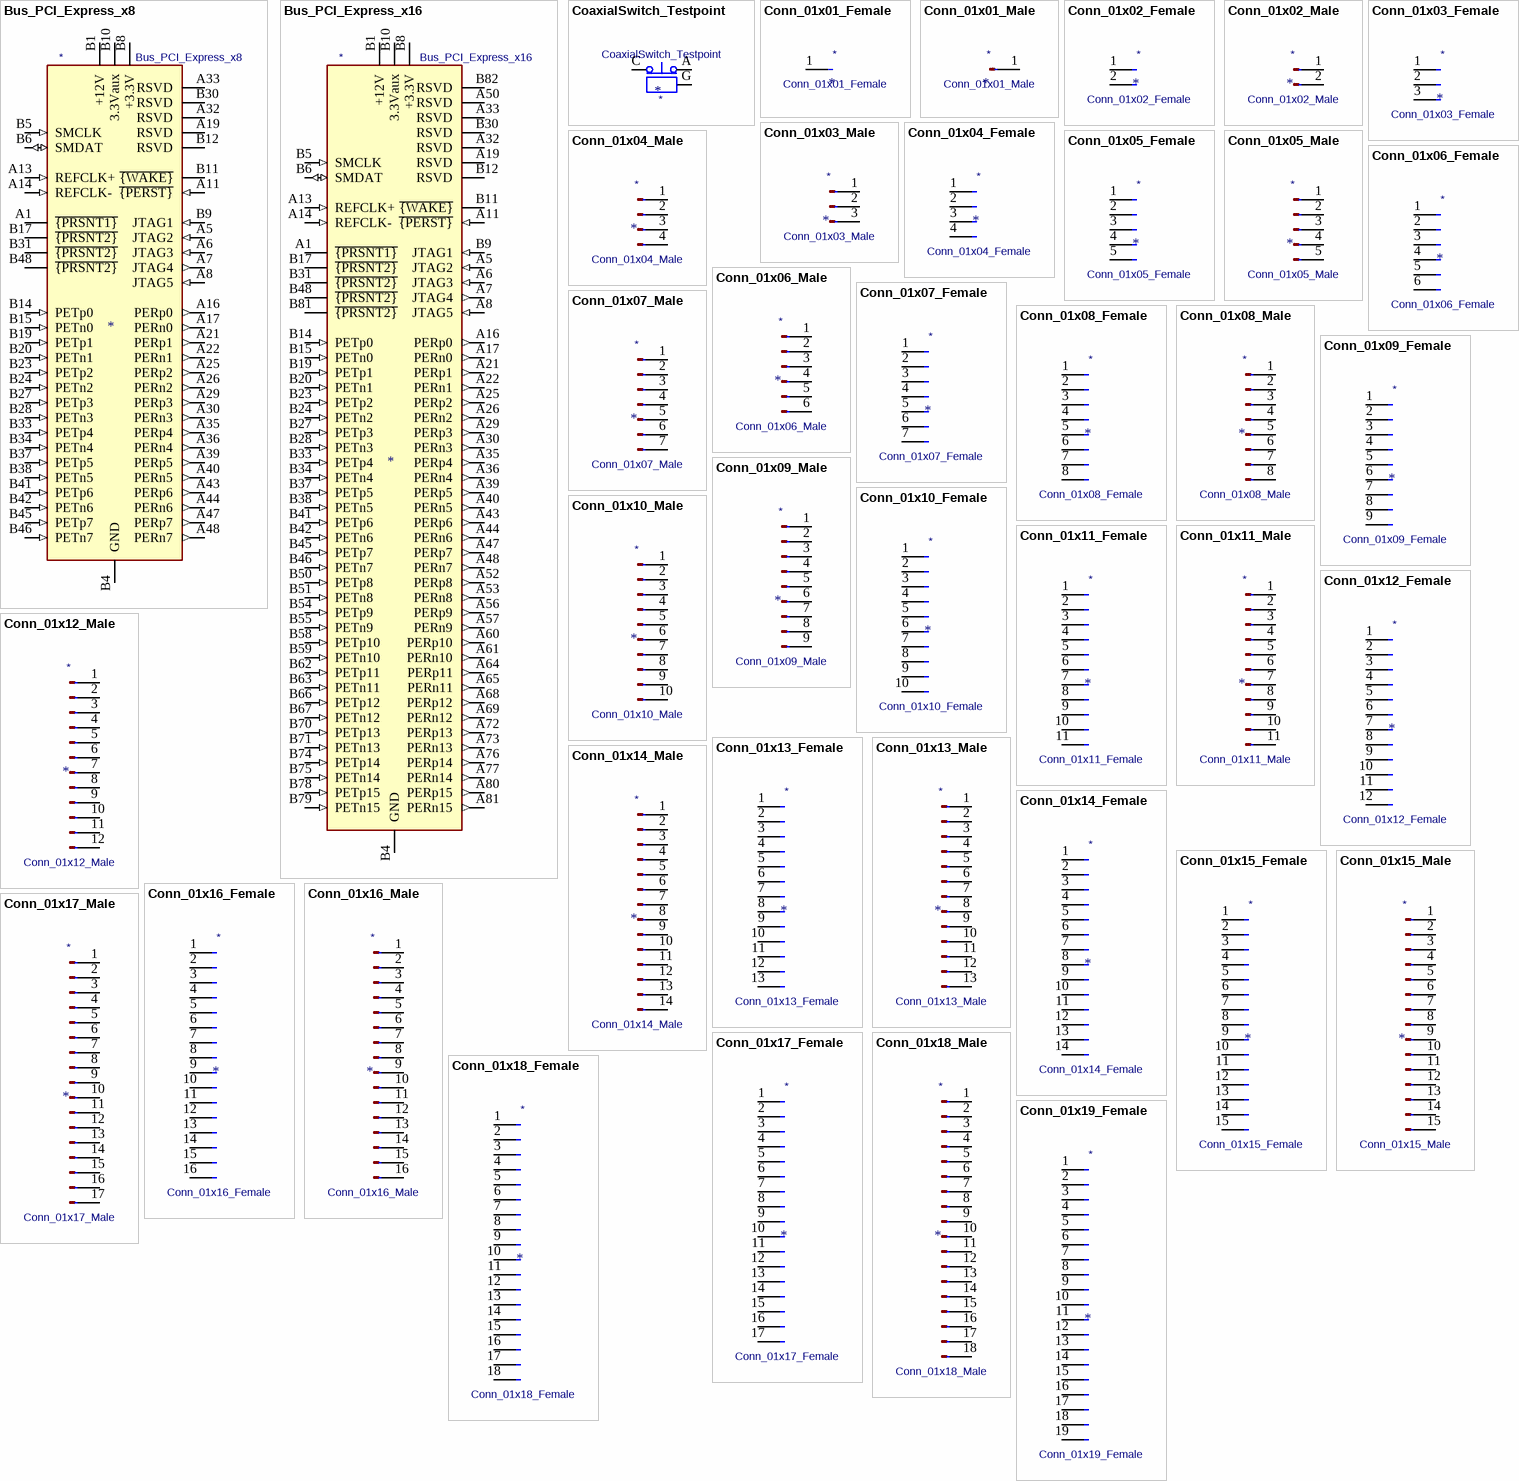
[diagram p3: symbols Bus_PCI_Express_x8 to Conn_01x19_Female]

## Bus_PCI_Express_x8
designator *  value Bus_PCI_Express_x8
ki_keywords: pcie; ki_description: PCI Express bus connector x8; ki_fp_filters: *PCIexpress*; Footprint: Connector_PCBEdge:BUS_PCIexpress_x8; Supplier: http://www.ritrontek.com/uploadfile/2016/1026/20161026105231124.pdf#page=63
footprint BUS_PCIexpress_x8
pins: A1 ~{{PRSNT1}}, A2 +12V hidden, A3 +12V hidden, A4 GND hidden, A5 JTAG2 (in), A6 JTAG3 (in), A7 JTAG4 (out), A8 JTAG5 (in), A9 +3.3V hidden, A10 +3.3V hidden, A11 ~{{PERST}} (in), A12 GND hidden, A13 REFCLK+ (in), A14 REFCLK- (in), A15 GND hidden, A16 PERp0 (out), A17 PERn0 (out), A18 GND hidden, A19 RSVD, A20 GND hidden, A21 PERp1 (out), A22 PERn1 (out), A23 GND hidden, A24 GND hidden, A25 PERp2 (out), A26 PERn2 (out), A27 GND hidden, A28 GND hidden, A29 PERp3 (out), A30 PERn3 (out), A31 GND hidden, A32 RSVD, A33 RSVD, A34 GND hidden, A35 PERp4 (out), A36 PERn4 (out), A37 GND hidden, A38 GND hidden, A39 PERp5 (out), A40 PERn5 (out), A41 GND hidden, A42 GND hidden, A43 PERp6 (out), A44 PERn6 (out), A45 GND hidden, A46 GND hidden, A47 PERp7 (out), A48 PERn7 (out), A49 GND hidden, B1 +12V (power), B2 +12V hidden, B3 +12V hidden, B4 GND (power), B5 SMCLK (in), B6 SMDAT (io), B7 GND hidden, B8 +3.3V (power), B9 JTAG1 (in), B10 3.3Vaux (power), B11 ~{{WAKE}} (oc), B12 RSVD, B13 GND hidden, B14 PETp0 (in), B15 PETn0 (in), B16 GND hidden, B17 ~{{PRSNT2}}, B18 GND hidden, B19 PETp1 (in), B20 PETn1 (in), B21 GND hidden, B22 GND hidden, B23 PETp2 (in), B24 PETn2 (in), B25 GND hidden, B26 GND hidden, B27 PETp3 (in), B28 PETn3 (in), B29 GND hidden, B30 RSVD, B31 ~{{PRSNT2}}, B32 GND hidden, B33 PETp4 (in), B34 PETn4 (in), B35 GND hidden, B36 GND hidden, B37 PETp5 (in), B38 PETn5 (in), B39 GND hidden, B40 GND hidden, B41 PETp6 (in), B42 PETn6 (in), B43 GND hidden, B44 GND hidden, B45 PETp7 (in), B46 PETn7 (in), B47 GND hidden, B48 ~{{PRSNT2}}, B49 GND hidden

## Bus_PCI_Express_x16
designator *  value Bus_PCI_Express_x16
ki_keywords: pcie; ki_description: PCI Express bus connector x16; ki_fp_filters: *PCIexpress*; Footprint: Connector_PCBEdge:BUS_PCIexpress_x16; Supplier: http://www.ritrontek.com/uploadfile/2016/1026/20161026105231124.pdf#page=63
footprint BUS_PCIexpress_x16
pins: A1 ~{{PRSNT1}}, A2 +12V hidden, A3 +12V hidden, A4 GND hidden, A5 JTAG2 (in), A6 JTAG3 (in), A7 JTAG4 (out), A8 JTAG5 (in), A9 +3.3V hidden, A10 +3.3V hidden, A11 ~{{PERST}} (in), A12 GND hidden, A13 REFCLK+ (in), A14 REFCLK- (in), A15 GND hidden, A16 PERp0 (out), A17 PERn0 (out), A18 GND hidden, A19 RSVD, A20 GND hidden, A21 PERp1 (out), A22 PERn1 (out), A23 GND hidden, A24 GND hidden, A25 PERp2 (out), A26 PERn2 (out), A27 GND hidden, A28 GND hidden, A29 PERp3 (out), A30 PERn3 (out), A31 GND hidden, A32 RSVD, A33 RSVD, A34 GND hidden, A35 PERp4 (out), A36 PERn4 (out), A37 GND hidden, A38 GND hidden, A39 PERp5 (out), A40 PERn5 (out), A41 GND hidden, A42 GND hidden, A43 PERp6 (out), A44 PERn6 (out), A45 GND hidden, A46 GND hidden, A47 PERp7 (out), A48 PERn7 (out), A49 GND hidden, A50 RSVD, A51 GND hidden, A52 PERp8 (out), A53 PERn8 (out), A54 GND hidden, A55 GND hidden, A56 PERp9 (out), A57 PERn9 (out), A58 GND hidden, A59 GND hidden, A60 PERp10 (out), A61 PERn10 (out), A62 GND hidden, A63 GND hidden, A64 PERp11 (out), A65 PERn11 (out), A66 GND hidden, A67 GND hidden, A68 PERp12 (out), A69 PERn12 (out), A70 GND hidden, A71 GND hidden, A72 PERp13 (out), A73 PERn13 (out), A74 GND hidden, A75 GND hidden, A76 PERp14 (out), A77 PERn14 (out), A78 GND hidden, A79 GND hidden, A80 PERp15 (out), A81 PERn15 (out), A82 GND hidden, B1 +12V (power), B2 +12V hidden, B3 +12V hidden, B4 GND (power), B5 SMCLK (in), B6 SMDAT (io), B7 GND hidden, B8 +3.3V (power), B9 JTAG1 (in), B10 3.3Vaux (power), B11 ~{{WAKE}} (oc), B12 RSVD, B13 GND hidden, B14 PETp0 (in), B15 PETn0 (in), B16 GND hidden, B17 ~{{PRSNT2}}, B18 GND hidden, B19 PETp1 (in), B20 PETn1 (in), B21 GND hidden, B22 GND hidden, B23 PETp2 (in), B24 PETn2 (in), B25 GND hidden, B26 GND hidden, B27 PETp3 (in), B28 PETn3 (in), B29 GND hidden, B30 RSVD, B31 ~{{PRSNT2}}, B32 GND hidden, B33 PETp4 (in), B34 PETn4 (in), B35 GND hidden, B36 GND hidden, B37 PETp5 (in), B38 PETn5 (in), B39 GND hidden, B40 GND hidden, B41 PETp6 (in), B42 PETn6 (in), B43 GND hidden, B44 GND hidden, B45 PETp7 (in), B46 PETn7 (in), B47 GND hidden, B48 ~{{PRSNT2}}, B49 GND hidden, B50 PETp8 (in), B51 PETn8 (in), B52 GND hidden, B53 GND hidden, B54 PETp9 (in), B55 PETn9 (in), B56 GND hidden, B57 GND hidden, B58 PETp10 (in), B59 PETn10 (in), B60 GND hidden, B61 GND hidden, B62 PETp11 (in), B63 PETn11 (in), B64 GND hidden, B65 GND hidden, B66 PETp12 (in), B67 PETn12 (in), B68 GND hidden, B69 GND hidden, B70 PETp13 (in), B71 PETn13 (in), B72 GND hidden, B73 GND hidden, B74 PETp14 (in), B75 PETn14 (in), B76 GND hidden, B77 GND hidden, B78 PETp15 (in), B79 PETn15 (in), B80 GND hidden, B81 ~{{PRSNT2}}, B82 RSVD

## CoaxialSwitch_Testpoint
designator *  value CoaxialSwitch_Testpoint
ki_keywords: Coaxial Switch RF testpoint; ki_description: Subminiature Coaxial Switch testpoint; ki_fp_filters: CoaxialSwitch*; Supplier: ~
pins: A, C, G

## Conn_01x01_Female
designator *  value Conn_01x01_Female
ki_keywords: connector; ki_description: Generic connector, single row, 01x01, script generated (kicad-library-utils/schlib/autogen/connector/); ki_fp_filters: Connector*:*; Supplier: ~
pins: 1 Pin_1

## Conn_01x01_Male
designator *  value Conn_01x01_Male
ki_keywords: connector; ki_description: Generic connector, single row, 01x01, script generated (kicad-library-utils/schlib/autogen/connector/); ki_fp_filters: Connector*:*; Supplier: ~
pins: 1 Pin_1

## Conn_01x02_Female
designator *  value Conn_01x02_Female
ki_keywords: connector; ki_description: Generic connector, single row, 01x02, script generated (kicad-library-utils/schlib/autogen/connector/); ki_fp_filters: Connector*:*_1x??_*; Supplier: ~
pins: 1 Pin_1, 2 Pin_2

## Conn_01x02_Male
designator *  value Conn_01x02_Male
ki_keywords: connector; ki_description: Generic connector, single row, 01x02, script generated (kicad-library-utils/schlib/autogen/connector/); ki_fp_filters: Connector*:*_1x??_*; Supplier: ~
pins: 1 Pin_1, 2 Pin_2

## Conn_01x03_Female
designator *  value Conn_01x03_Female
ki_keywords: connector; ki_description: Generic connector, single row, 01x03, script generated (kicad-library-utils/schlib/autogen/connector/); ki_fp_filters: Connector*:*_1x??_*; Supplier: ~
pins: 1 Pin_1, 2 Pin_2, 3 Pin_3

## Conn_01x03_Male
designator *  value Conn_01x03_Male
ki_keywords: connector; ki_description: Generic connector, single row, 01x03, script generated (kicad-library-utils/schlib/autogen/connector/); ki_fp_filters: Connector*:*_1x??_*; Supplier: ~
pins: 1 Pin_1, 2 Pin_2, 3 Pin_3

## Conn_01x04_Female
designator *  value Conn_01x04_Female
ki_keywords: connector; ki_description: Generic connector, single row, 01x04, script generated (kicad-library-utils/schlib/autogen/connector/); ki_fp_filters: Connector*:*_1x??_*; Supplier: ~
pins: 1 Pin_1, 2 Pin_2, 3 Pin_3, 4 Pin_4

## Conn_01x04_Male
designator *  value Conn_01x04_Male
ki_keywords: connector; ki_description: Generic connector, single row, 01x04, script generated (kicad-library-utils/schlib/autogen/connector/); ki_fp_filters: Connector*:*_1x??_*; Supplier: ~
pins: 1 Pin_1, 2 Pin_2, 3 Pin_3, 4 Pin_4

## Conn_01x05_Female
designator *  value Conn_01x05_Female
ki_keywords: connector; ki_description: Generic connector, single row, 01x05, script generated (kicad-library-utils/schlib/autogen/connector/); ki_fp_filters: Connector*:*_1x??_*; Supplier: ~
pins: 1 Pin_1, 2 Pin_2, 3 Pin_3, 4 Pin_4, 5 Pin_5

## Conn_01x05_Male
designator *  value Conn_01x05_Male
ki_keywords: connector; ki_description: Generic connector, single row, 01x05, script generated (kicad-library-utils/schlib/autogen/connector/); ki_fp_filters: Connector*:*_1x??_*; Supplier: ~
pins: 1 Pin_1, 2 Pin_2, 3 Pin_3, 4 Pin_4, 5 Pin_5

## Conn_01x06_Female
designator *  value Conn_01x06_Female
ki_keywords: connector; ki_description: Generic connector, single row, 01x06, script generated (kicad-library-utils/schlib/autogen/connector/); ki_fp_filters: Connector*:*_1x??_*; Supplier: ~
pins: 1 Pin_1, 2 Pin_2, 3 Pin_3, 4 Pin_4, 5 Pin_5, 6 Pin_6

## Conn_01x06_Male
designator *  value Conn_01x06_Male
ki_keywords: connector; ki_description: Generic connector, single row, 01x06, script generated (kicad-library-utils/schlib/autogen/connector/); ki_fp_filters: Connector*:*_1x??_*; Supplier: ~
pins: 1 Pin_1, 2 Pin_2, 3 Pin_3, 4 Pin_4, 5 Pin_5, 6 Pin_6

## Conn_01x07_Female
designator *  value Conn_01x07_Female
ki_keywords: connector; ki_description: Generic connector, single row, 01x07, script generated (kicad-library-utils/schlib/autogen/connector/); ki_fp_filters: Connector*:*_1x??_*; Supplier: ~
pins: 1 Pin_1, 2 Pin_2, 3 Pin_3, 4 Pin_4, 5 Pin_5, 6 Pin_6, 7 Pin_7

## Conn_01x07_Male
designator *  value Conn_01x07_Male
ki_keywords: connector; ki_description: Generic connector, single row, 01x07, script generated (kicad-library-utils/schlib/autogen/connector/); ki_fp_filters: Connector*:*_1x??_*; Supplier: ~
pins: 1 Pin_1, 2 Pin_2, 3 Pin_3, 4 Pin_4, 5 Pin_5, 6 Pin_6, 7 Pin_7

## Conn_01x08_Female
designator *  value Conn_01x08_Female
ki_keywords: connector; ki_description: Generic connector, single row, 01x08, script generated (kicad-library-utils/schlib/autogen/connector/); ki_fp_filters: Connector*:*_1x??_*; Supplier: ~
pins: 1 Pin_1, 2 Pin_2, 3 Pin_3, 4 Pin_4, 5 Pin_5, 6 Pin_6, 7 Pin_7, 8 Pin_8

## Conn_01x08_Male
designator *  value Conn_01x08_Male
ki_keywords: connector; ki_description: Generic connector, single row, 01x08, script generated (kicad-library-utils/schlib/autogen/connector/); ki_fp_filters: Connector*:*_1x??_*; Supplier: ~
pins: 1 Pin_1, 2 Pin_2, 3 Pin_3, 4 Pin_4, 5 Pin_5, 6 Pin_6, 7 Pin_7, 8 Pin_8

## Conn_01x09_Female
designator *  value Conn_01x09_Female
ki_keywords: connector; ki_description: Generic connector, single row, 01x09, script generated (kicad-library-utils/schlib/autogen/connector/); ki_fp_filters: Connector*:*_1x??_*; Supplier: ~
pins: 1 Pin_1, 2 Pin_2, 3 Pin_3, 4 Pin_4, 5 Pin_5, 6 Pin_6, 7 Pin_7, 8 Pin_8, 9 Pin_9

## Conn_01x09_Male
designator *  value Conn_01x09_Male
ki_keywords: connector; ki_description: Generic connector, single row, 01x09, script generated (kicad-library-utils/schlib/autogen/connector/); ki_fp_filters: Connector*:*_1x??_*; Supplier: ~
pins: 1 Pin_1, 2 Pin_2, 3 Pin_3, 4 Pin_4, 5 Pin_5, 6 Pin_6, 7 Pin_7, 8 Pin_8, 9 Pin_9

## Conn_01x10_Female
designator *  value Conn_01x10_Female
ki_keywords: connector; ki_description: Generic connector, single row, 01x10, script generated (kicad-library-utils/schlib/autogen/connector/); ki_fp_filters: Connector*:*_1x??_*; Supplier: ~
pins: 1 Pin_1, 2 Pin_2, 3 Pin_3, 4 Pin_4, 5 Pin_5, 6 Pin_6, 7 Pin_7, 8 Pin_8, 9 Pin_9, 10 Pin_10

## Conn_01x10_Male
designator *  value Conn_01x10_Male
ki_keywords: connector; ki_description: Generic connector, single row, 01x10, script generated (kicad-library-utils/schlib/autogen/connector/); ki_fp_filters: Connector*:*_1x??_*; Supplier: ~
pins: 1 Pin_1, 2 Pin_2, 3 Pin_3, 4 Pin_4, 5 Pin_5, 6 Pin_6, 7 Pin_7, 8 Pin_8, 9 Pin_9, 10 Pin_10

## Conn_01x11_Female
designator *  value Conn_01x11_Female
ki_keywords: connector; ki_description: Generic connector, single row, 01x11, script generated (kicad-library-utils/schlib/autogen/connector/); ki_fp_filters: Connector*:*_1x??_*; Supplier: ~
pins: 1 Pin_1, 2 Pin_2, 3 Pin_3, 4 Pin_4, 5 Pin_5, 6 Pin_6, 7 Pin_7, 8 Pin_8, 9 Pin_9, 10 Pin_10, 11 Pin_11

## Conn_01x11_Male
designator *  value Conn_01x11_Male
ki_keywords: connector; ki_description: Generic connector, single row, 01x11, script generated (kicad-library-utils/schlib/autogen/connector/); ki_fp_filters: Connector*:*_1x??_*; Supplier: ~
pins: 1 Pin_1, 2 Pin_2, 3 Pin_3, 4 Pin_4, 5 Pin_5, 6 Pin_6, 7 Pin_7, 8 Pin_8, 9 Pin_9, 10 Pin_10, 11 Pin_11

## Conn_01x12_Female
designator *  value Conn_01x12_Female
ki_keywords: connector; ki_description: Generic connector, single row, 01x12, script generated (kicad-library-utils/schlib/autogen/connector/); ki_fp_filters: Connector*:*_1x??_*; Supplier: ~
pins: 1 Pin_1, 2 Pin_2, 3 Pin_3, 4 Pin_4, 5 Pin_5, 6 Pin_6, 7 Pin_7, 8 Pin_8, 9 Pin_9, 10 Pin_10, 11 Pin_11, 12 Pin_12

## Conn_01x12_Male
designator *  value Conn_01x12_Male
ki_keywords: connector; ki_description: Generic connector, single row, 01x12, script generated (kicad-library-utils/schlib/autogen/connector/); ki_fp_filters: Connector*:*_1x??_*; Supplier: ~
pins: 1 Pin_1, 2 Pin_2, 3 Pin_3, 4 Pin_4, 5 Pin_5, 6 Pin_6, 7 Pin_7, 8 Pin_8, 9 Pin_9, 10 Pin_10, 11 Pin_11, 12 Pin_12

## Conn_01x13_Female
designator *  value Conn_01x13_Female
ki_keywords: connector; ki_description: Generic connector, single row, 01x13, script generated (kicad-library-utils/schlib/autogen/connector/); ki_fp_filters: Connector*:*_1x??_*; Supplier: ~
pins: 1 Pin_1, 2 Pin_2, 3 Pin_3, 4 Pin_4, 5 Pin_5, 6 Pin_6, 7 Pin_7, 8 Pin_8, 9 Pin_9, 10 Pin_10, 11 Pin_11, 12 Pin_12, 13 Pin_13

## Conn_01x13_Male
designator *  value Conn_01x13_Male
ki_keywords: connector; ki_description: Generic connector, single row, 01x13, script generated (kicad-library-utils/schlib/autogen/connector/); ki_fp_filters: Connector*:*_1x??_*; Supplier: ~
pins: 1 Pin_1, 2 Pin_2, 3 Pin_3, 4 Pin_4, 5 Pin_5, 6 Pin_6, 7 Pin_7, 8 Pin_8, 9 Pin_9, 10 Pin_10, 11 Pin_11, 12 Pin_12, 13 Pin_13

## Conn_01x14_Female
designator *  value Conn_01x14_Female
ki_keywords: connector; ki_description: Generic connector, single row, 01x14, script generated (kicad-library-utils/schlib/autogen/connector/); ki_fp_filters: Connector*:*_1x??_*; Supplier: ~
pins: 1 Pin_1, 2 Pin_2, 3 Pin_3, 4 Pin_4, 5 Pin_5, 6 Pin_6, 7 Pin_7, 8 Pin_8, 9 Pin_9, 10 Pin_10, 11 Pin_11, 12 Pin_12, 13 Pin_13, 14 Pin_14

## Conn_01x14_Male
designator *  value Conn_01x14_Male
ki_keywords: connector; ki_description: Generic connector, single row, 01x14, script generated (kicad-library-utils/schlib/autogen/connector/); ki_fp_filters: Connector*:*_1x??_*; Supplier: ~
pins: 1 Pin_1, 2 Pin_2, 3 Pin_3, 4 Pin_4, 5 Pin_5, 6 Pin_6, 7 Pin_7, 8 Pin_8, 9 Pin_9, 10 Pin_10, 11 Pin_11, 12 Pin_12, 13 Pin_13, 14 Pin_14

## Conn_01x15_Female
designator *  value Conn_01x15_Female
ki_keywords: connector; ki_description: Generic connector, single row, 01x15, script generated (kicad-library-utils/schlib/autogen/connector/); ki_fp_filters: Connector*:*_1x??_*; Supplier: ~
pins: 1 Pin_1, 2 Pin_2, 3 Pin_3, 4 Pin_4, 5 Pin_5, 6 Pin_6, 7 Pin_7, 8 Pin_8, 9 Pin_9, 10 Pin_10, 11 Pin_11, 12 Pin_12, 13 Pin_13, 14 Pin_14, 15 Pin_15

## Conn_01x15_Male
designator *  value Conn_01x15_Male
ki_keywords: connector; ki_description: Generic connector, single row, 01x15, script generated (kicad-library-utils/schlib/autogen/connector/); ki_fp_filters: Connector*:*_1x??_*; Supplier: ~
pins: 1 Pin_1, 2 Pin_2, 3 Pin_3, 4 Pin_4, 5 Pin_5, 6 Pin_6, 7 Pin_7, 8 Pin_8, 9 Pin_9, 10 Pin_10, 11 Pin_11, 12 Pin_12, 13 Pin_13, 14 Pin_14, 15 Pin_15

## Conn_01x16_Female
designator *  value Conn_01x16_Female
ki_keywords: connector; ki_description: Generic connector, single row, 01x16, script generated (kicad-library-utils/schlib/autogen/connector/); ki_fp_filters: Connector*:*_1x??_*; Supplier: ~
pins: 1 Pin_1, 2 Pin_2, 3 Pin_3, 4 Pin_4, 5 Pin_5, 6 Pin_6, 7 Pin_7, 8 Pin_8, 9 Pin_9, 10 Pin_10, 11 Pin_11, 12 Pin_12, 13 Pin_13, 14 Pin_14, 15 Pin_15, 16 Pin_16

## Conn_01x16_Male
designator *  value Conn_01x16_Male
ki_keywords: connector; ki_description: Generic connector, single row, 01x16, script generated (kicad-library-utils/schlib/autogen/connector/); ki_fp_filters: Connector*:*_1x??_*; Supplier: ~
pins: 1 Pin_1, 2 Pin_2, 3 Pin_3, 4 Pin_4, 5 Pin_5, 6 Pin_6, 7 Pin_7, 8 Pin_8, 9 Pin_9, 10 Pin_10, 11 Pin_11, 12 Pin_12, 13 Pin_13, 14 Pin_14, 15 Pin_15, 16 Pin_16

## Conn_01x17_Female
designator *  value Conn_01x17_Female
ki_keywords: connector; ki_description: Generic connector, single row, 01x17, script generated (kicad-library-utils/schlib/autogen/connector/); ki_fp_filters: Connector*:*_1x??_*; Supplier: ~
pins: 1 Pin_1, 2 Pin_2, 3 Pin_3, 4 Pin_4, 5 Pin_5, 6 Pin_6, 7 Pin_7, 8 Pin_8, 9 Pin_9, 10 Pin_10, 11 Pin_11, 12 Pin_12, 13 Pin_13, 14 Pin_14, 15 Pin_15, 16 Pin_16, 17 Pin_17

## Conn_01x17_Male
designator *  value Conn_01x17_Male
ki_keywords: connector; ki_description: Generic connector, single row, 01x17, script generated (kicad-library-utils/schlib/autogen/connector/); ki_fp_filters: Connector*:*_1x??_*; Supplier: ~
pins: 1 Pin_1, 2 Pin_2, 3 Pin_3, 4 Pin_4, 5 Pin_5, 6 Pin_6, 7 Pin_7, 8 Pin_8, 9 Pin_9, 10 Pin_10, 11 Pin_11, 12 Pin_12, 13 Pin_13, 14 Pin_14, 15 Pin_15, 16 Pin_16, 17 Pin_17

## Conn_01x18_Female
designator *  value Conn_01x18_Female
ki_keywords: connector; ki_description: Generic connector, single row, 01x18, script generated (kicad-library-utils/schlib/autogen/connector/); ki_fp_filters: Connector*:*_1x??_*; Supplier: ~
pins: 1 Pin_1, 2 Pin_2, 3 Pin_3, 4 Pin_4, 5 Pin_5, 6 Pin_6, 7 Pin_7, 8 Pin_8, 9 Pin_9, 10 Pin_10, 11 Pin_11, 12 Pin_12, 13 Pin_13, 14 Pin_14, 15 Pin_15, 16 Pin_16, 17 Pin_17, 18 Pin_18

## Conn_01x18_Male
designator *  value Conn_01x18_Male
ki_keywords: connector; ki_description: Generic connector, single row, 01x18, script generated (kicad-library-utils/schlib/autogen/connector/); ki_fp_filters: Connector*:*_1x??_*; Supplier: ~
pins: 1 Pin_1, 2 Pin_2, 3 Pin_3, 4 Pin_4, 5 Pin_5, 6 Pin_6, 7 Pin_7, 8 Pin_8, 9 Pin_9, 10 Pin_10, 11 Pin_11, 12 Pin_12, 13 Pin_13, 14 Pin_14, 15 Pin_15, 16 Pin_16, 17 Pin_17, 18 Pin_18

## Conn_01x19_Female
designator *  value Conn_01x19_Female
ki_keywords: connector; ki_description: Generic connector, single row, 01x19, script generated (kicad-library-utils/schlib/autogen/connector/); ki_fp_filters: Connector*:*_1x??_*; Supplier: ~
pins: 1 Pin_1, 2 Pin_2, 3 Pin_3, 4 Pin_4, 5 Pin_5, 6 Pin_6, 7 Pin_7, 8 Pin_8, 9 Pin_9, 10 Pin_10, 11 Pin_11, 12 Pin_12, 13 Pin_13, 14 Pin_14, 15 Pin_15, 16 Pin_16, 17 Pin_17, 18 Pin_18, 19 Pin_19

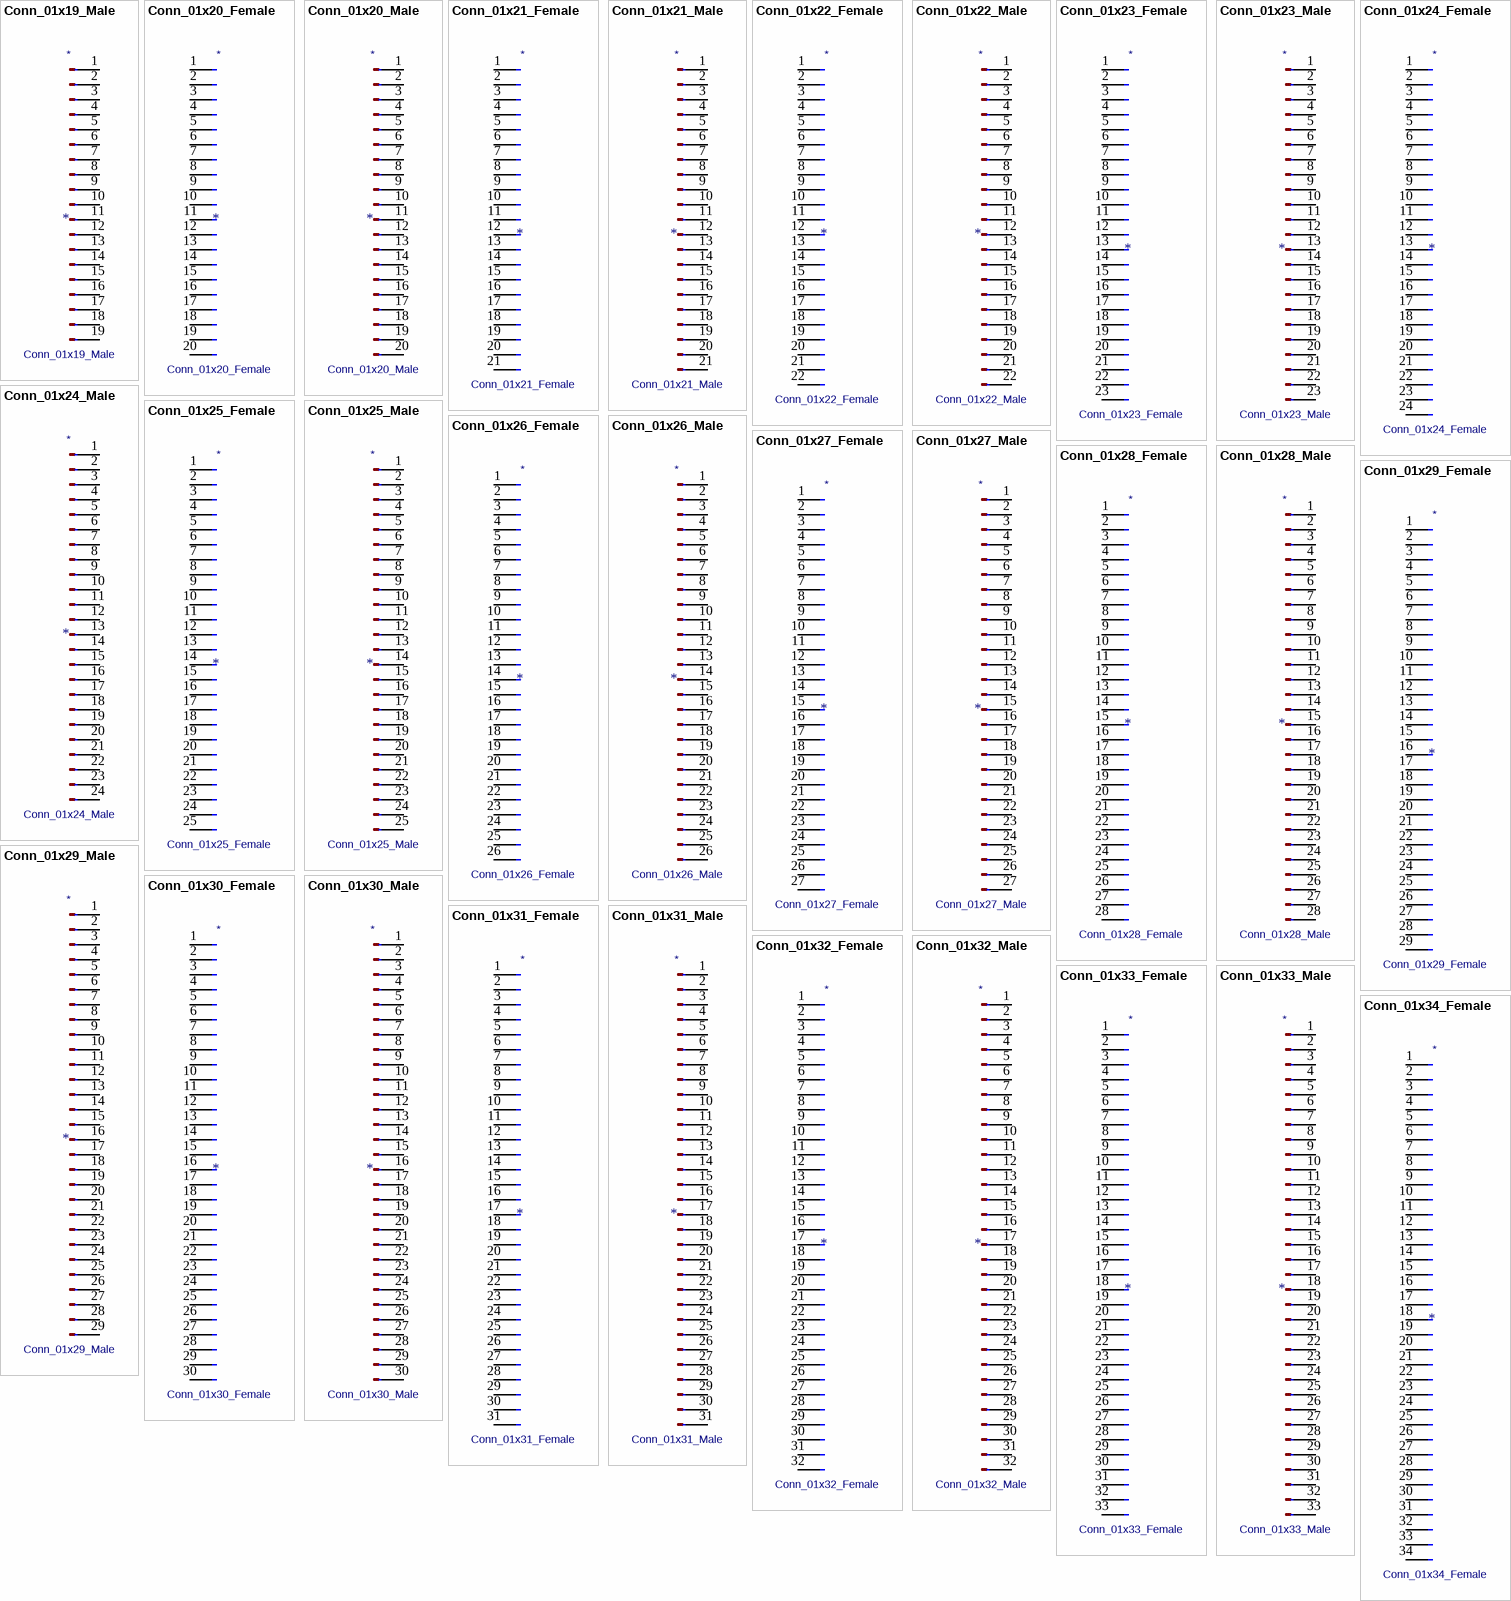
[diagram p4: symbols Conn_01x19_Male to Conn_01x34_Female]